# Altium integrated library Actel Axcelerator.IntLib: 162 symbols (part 9 of 43)
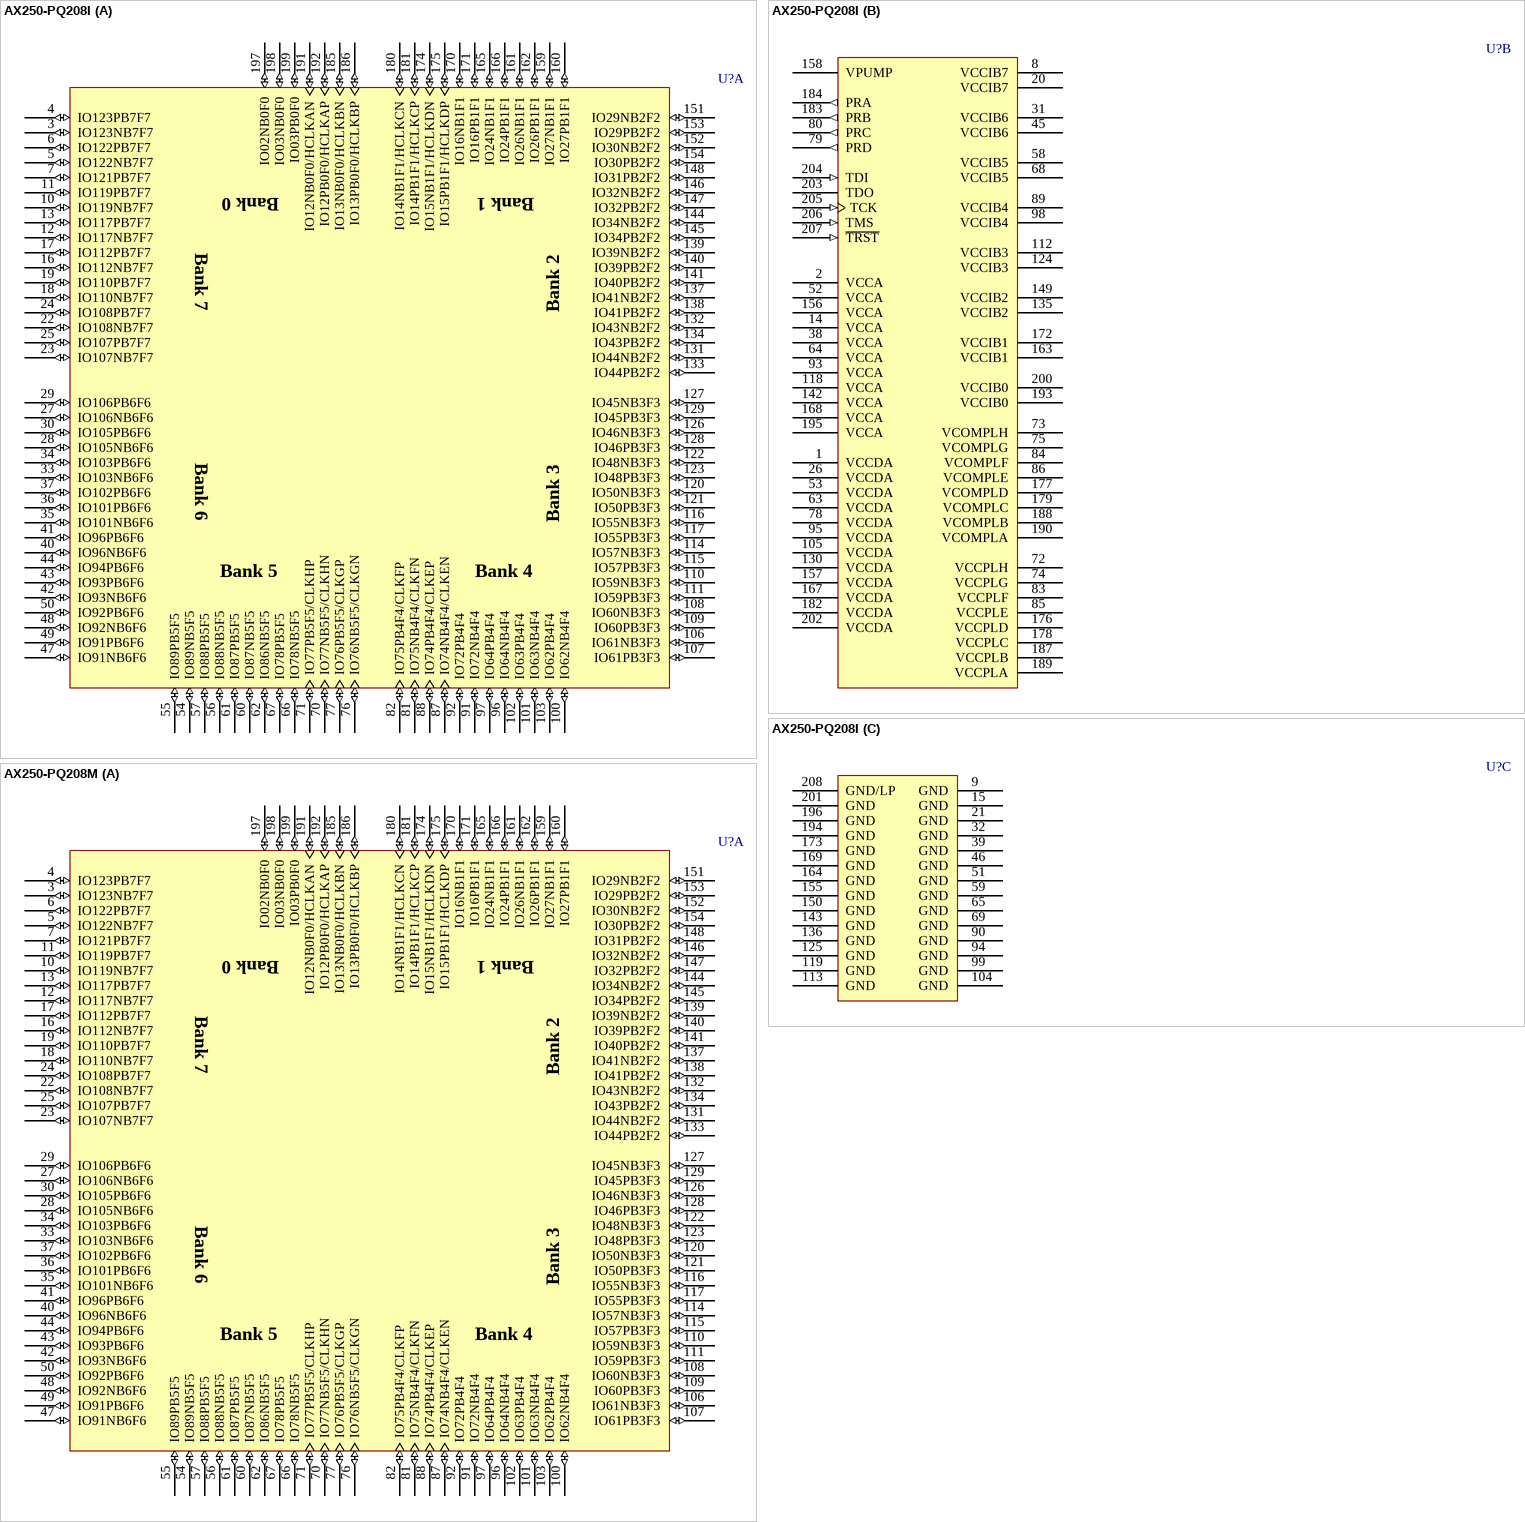
[diagram p407: symbols AX250-PQ208I to AX250-PQ208M]

## AX250-PQ208I
designator U?
Axcelerator AX250 FPGA, 115 User I/Os, 208-Pin PQFP, Speed Grade 1, Industrial Grade; Published: 21-May-2003; LatestRevisionDate: 11-Dec-2009; LatestRevisionNote: Updated to datasheet version 2.8 Oct-2009.; DatasheetVersion: v2.8, Oct-2009; PackageVersion: ver11.2, Nov-2009; PackageReference: PQ208; Publisher: Altium Limited; PackageDescription: 208-Pin Plastic Quad Flat Pack (PQ208); Code_JEDEC: MS-029-FA-1; ComponentLink1Description: Axcelerator Datasheet; ComponentLink1URL: http://www.actel.com/documents/AX_DS.pdf; ComponentLink2Description: Package Mechanical Drawings; ComponentLink2URL: http://www.actel.com/documents/PckgMechDrwngs.pdf; ComponentLink3Description: Axcelerator Documents; ComponentLink3URL: http://www.actel.com/products/axcelerator/docs.aspx; ComponentLink4Description: Actel.com Home; ComponentLink4URL: http://www.actel.com/
footprint PQ208_N (Shrink QFP, 208-Leads, Body 28x28mm, Pitch 0.5mm, IPC Medium Density)
footprint PQ208_L (Shrink QFP, 208-Leads, Body 28x28mm, Pitch 0.5mm, IPC High Density)
footprint PQ208_M (Shrink QFP, 208-Leads, Body 28x28mm, Pitch 0.5mm, IPC Low Density)
part A pins: 3 IO123NB7F7 (io), 4 IO123PB7F7 (io), 5 IO122NB7F7 (io), 6 IO122PB7F7 (io), 7 IO121PB7F7 (io), 10 IO119NB7F7 (io), 11 IO119PB7F7 (io), 12 IO117NB7F7 (io), 13 IO117PB7F7 (io), 16 IO112NB7F7 (io), 17 IO112PB7F7 (io), 18 IO110NB7F7 (io), 19 IO110PB7F7 (io), 22 IO108NB7F7 (io), 23 IO107NB7F7 (io), 24 IO108PB7F7 (io), 25 IO107PB7F7 (io), 27 IO106NB6F6 (io), 28 IO105NB6F6 (io), 29 IO106PB6F6 (io), 30 IO105PB6F6 (io), 33 IO103NB6F6 (io), 34 IO103PB6F6 (io), 35 IO101NB6F6 (io), 36 IO101PB6F6 (io), 37 IO102PB6F6 (io), 40 IO96NB6F6 (io), 41 IO96PB6F6 (io), 42 IO93NB6F6 (io), 43 IO93PB6F6 (io), 44 IO94PB6F6 (io), 47 IO91NB6F6 (io), 48 IO92NB6F6 (io), 49 IO91PB6F6 (io), 50 IO92PB6F6 (io), 54 IO89NB5F5 (io), 55 IO89PB5F5 (io), 56 IO88NB5F5 (io), 57 IO88PB5F5 (io), 60 IO87NB5F5 (io), 61 IO87PB5F5 (io), 62 IO86NB5F5 (io), 66 IO78NB5F5 (io), 67 IO78PB5F5 (io), 70 IO77NB5F5/CLKHN (io), 71 IO77PB5F5/CLKHP (io), 76 IO76NB5F5/CLKGN (io), 77 IO76PB5F5/CLKGP (io), 81 IO75NB4F4/CLKFN (io), 82 IO75PB4F4/CLKFP (io), 87 IO74NB4F4/CLKEN (io), 88 IO74PB4F4/CLKEP (io), 91 IO72NB4F4 (io), 92 IO72PB4F4 (io), 96 IO64NB4F4 (io), 97 IO64PB4F4 (io), 100 IO62NB4F4 (io), 101 IO63NB4F4 (io), 102 IO63PB4F4 (io), 103 IO62PB4F4 (io), 106 IO61NB3F3 (io), 107 IO61PB3F3 (io), 108 IO60NB3F3 (io), 109 IO60PB3F3 (io), 110 IO59NB3F3 (io), 111 IO59PB3F3 (io), 114 IO57NB3F3 (io), 115 IO57PB3F3 (io), 116 IO55NB3F3 (io), 117 IO55PB3F3 (io), 120 IO50NB3F3 (io), 121 IO50PB3F3 (io), 122 IO48NB3F3 (io), 123 IO48PB3F3 (io), 126 IO46NB3F3 (io), 127 IO45NB3F3 (io), 128 IO46PB3F3 (io), 129 IO45PB3F3 (io), 131 IO44NB2F2 (io), 132 IO43NB2F2 (io), 133 IO44PB2F2 (io), 134 IO43PB2F2 (io), 137 IO41NB2F2 (io), 138 IO41PB2F2 (io), 139 IO39NB2F2 (io), 140 IO39PB2F2 (io), 141 IO40PB2F2 (io), 144 IO34NB2F2 (io), 145 IO34PB2F2 (io), 146 IO32NB2F2 (io), 147 IO32PB2F2 (io), 148 IO31PB2F2 (io), 151 IO29NB2F2 (io), 152 IO30NB2F2 (io), 153 IO29PB2F2 (io), 154 IO30PB2F2 (io), 159 IO27NB1F1 (io), 160 IO27PB1F1 (io), 161 IO26NB1F1 (io), 162 IO26PB1F1 (io), 165 IO24NB1F1 (io), 166 IO24PB1F1 (io), 170 IO16NB1F1 (io), 171 IO16PB1F1 (io), 174 IO15NB1F1/HCLKDN (io), 175 IO15PB1F1/HCLKDP (io), 180 IO14NB1F1/HCLKCN (io), 181 IO14PB1F1/HCLKCP (io), 185 IO13NB0F0/HCLKBN (io), 186 IO13PB0F0/HCLKBP (io), 191 IO12NB0F0/HCLKAN (io), 192 IO12PB0F0/HCLKAP (io), 197 IO02NB0F0 (io), 198 IO03NB0F0 (io), 199 IO03PB0F0 (io)
part B pins: 1 VCCDA (power), 2 VCCA (power), 8 VCCIB7 (power), 14 VCCA (power), 20 VCCIB7 (power), 26 VCCDA (power), 31 VCCIB6 (power), 38 VCCA (power), 45 VCCIB6 (power), 52 VCCA (power), 53 VCCDA (power), 58 VCCIB5 (power), 63 VCCDA (power), 64 VCCA (power), 68 VCCIB5 (power), 72 VCCPLH (power), 73 VCOMPLH (power), 74 VCCPLG (power), 75 VCOMPLG (power), 78 VCCDA (power), 79 PRD (out), 80 PRC (out), 83 VCCPLF (power), 84 VCOMPLF (power), 85 VCCPLE (power), 86 VCOMPLE (power), 89 VCCIB4 (power), 93 VCCA (power), 95 VCCDA (power), 98 VCCIB4 (power), 105 VCCDA (power), 112 VCCIB3 (power), 118 VCCA (power), 124 VCCIB3 (power), 130 VCCDA (power), 135 VCCIB2 (power), 142 VCCA (power), 149 VCCIB2 (power), 156 VCCA (power), 157 VCCDA (power), 158 VPUMP (power), 163 VCCIB1 (power), 167 VCCDA (power), 168 VCCA (power), 172 VCCIB1 (power), 176 VCCPLD (power), 177 VCOMPLD (power), 178 VCCPLC (power), 179 VCOMPLC (power), 182 VCCDA (power), 183 PRB (out), 184 PRA (out), 187 VCCPLB (power), 188 VCOMPLB (power), 189 VCCPLA (power), 190 VCOMPLA (power), 193 VCCIB0 (power), 195 VCCA (power), 200 VCCIB0 (power), 202 VCCDA (power), 203 TDO (hiz), 204 TDI (in), 205 TCK (in), 206 TMS (in), 207 ~{TRST} (in)
part C pins: 9 GND (power), 15 GND (power), 21 GND (power), 32 GND (power), 39 GND (power), 46 GND (power), 51 GND (power), 59 GND (power), 65 GND (power), 69 GND (power), 90 GND (power), 94 GND (power), 99 GND (power), 104 GND (power), 113 GND (power), 119 GND (power), 125 GND (power), 136 GND (power), 143 GND (power), 150 GND (power), 155 GND (power), 164 GND (power), 169 GND (power), 173 GND (power), 194 GND (power), 196 GND (power), 201 GND (power), 208 GND/LP (power)
part A text: Bank 0; Bank 1; Bank 7; Bank 2; Bank 6; Bank 3; Bank 5; Bank 4

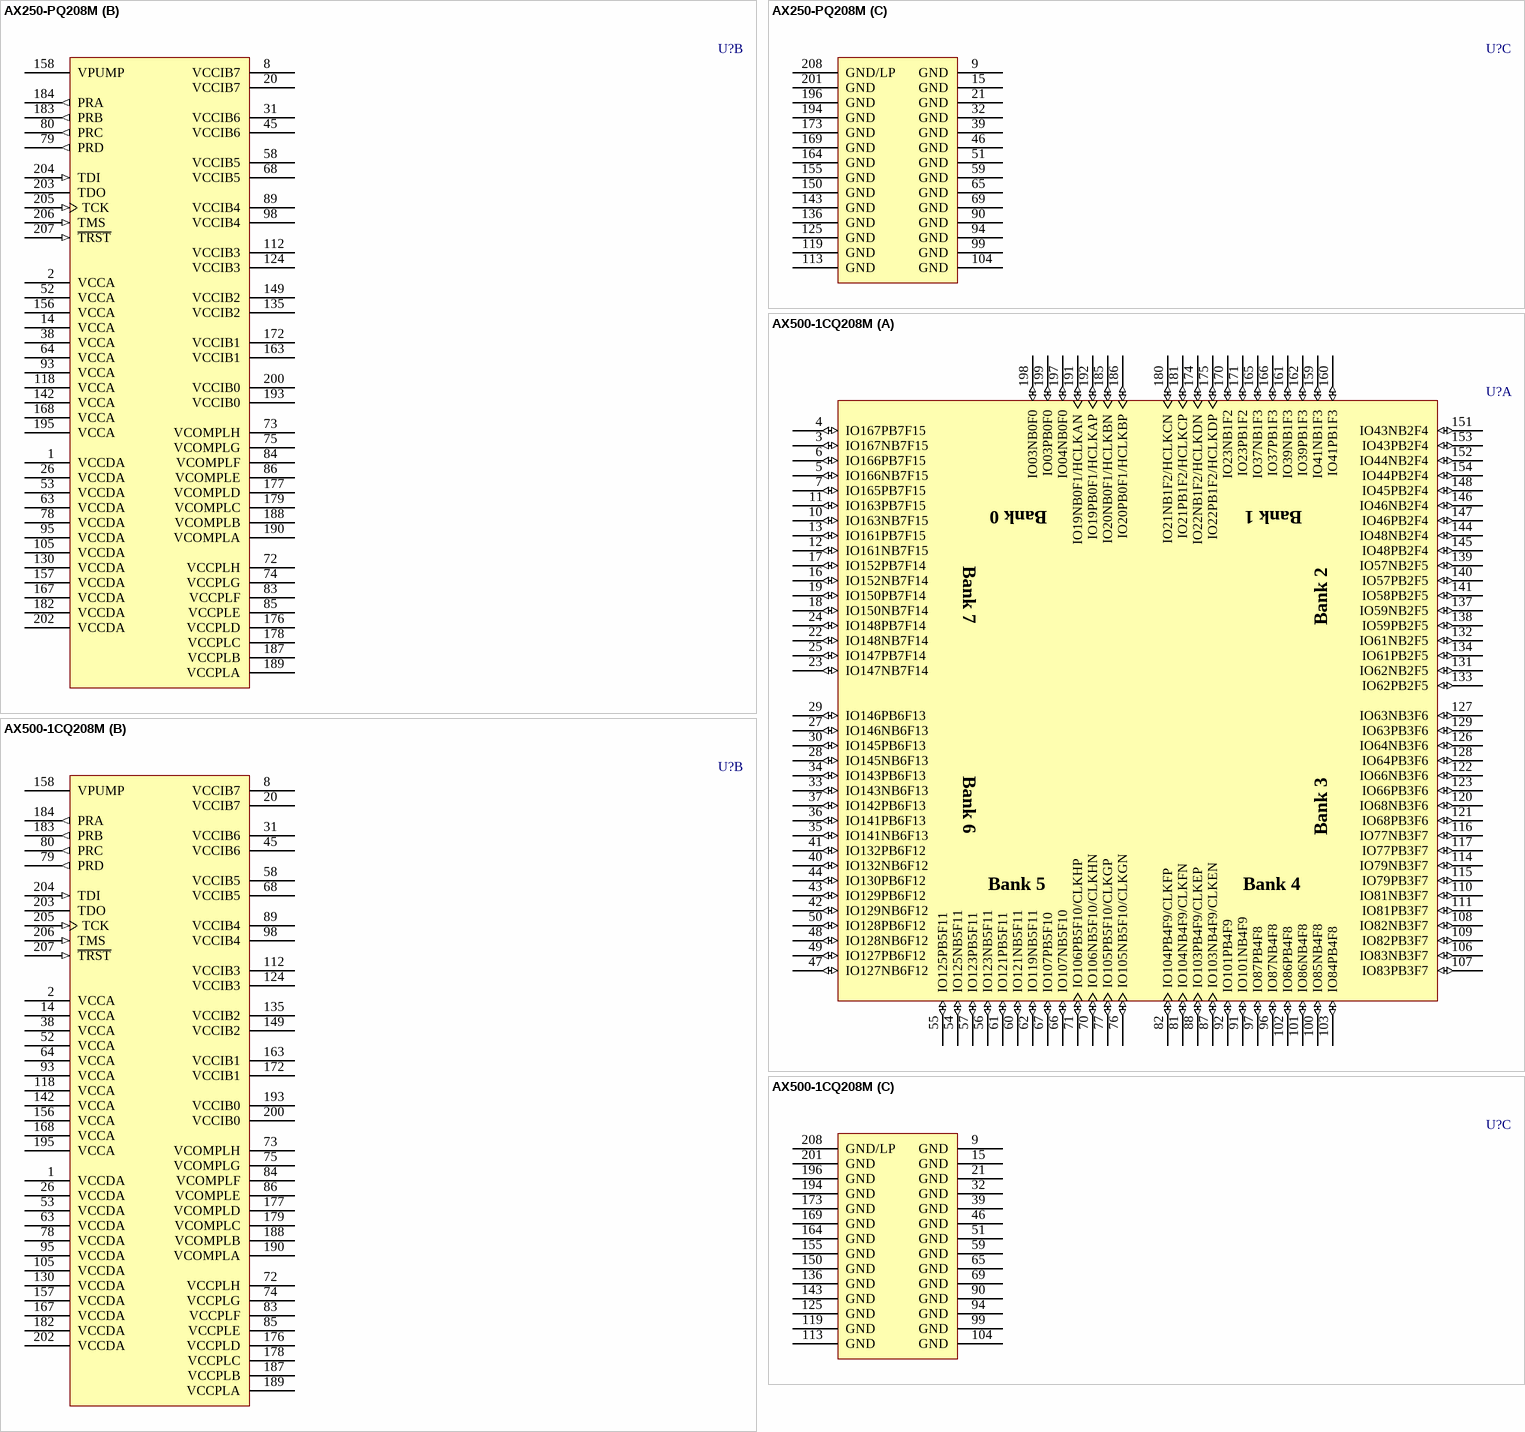
[diagram p100: symbols AX250-PQ208M to AX500-1CQ208M]

## AX250-PQ208M
designator U?
Axcelerator AX250 FPGA, 115 User I/Os, 208-Pin PQFP, Standard Speed Grade, Military Grade; Published: 11-Dec-2009; DatasheetVersion: v2.8, Oct-2009; PackageVersion: ver11.2, Nov-2009; PackageReference: PQ208; Publisher: Altium Limited; PackageDescription: 208-Pin Plastic Quad Flat Pack (PQ208); Code_JEDEC: MS-029-FA-1; ComponentLink1Description: Axcelerator Datasheet; ComponentLink1URL: http://www.actel.com/documents/AX_DS.pdf; ComponentLink2Description: Package Mechanical Drawings; ComponentLink2URL: http://www.actel.com/documents/PckgMechDrwngs.pdf; ComponentLink3Description: Axcelerator Documents; ComponentLink3URL: http://www.actel.com/products/axcelerator/docs.aspx; ComponentLink4Description: Actel.com Home; ComponentLink4URL: http://www.actel.com/
footprint PQ208_N (Shrink QFP, 208-Leads, Body 28x28mm, Pitch 0.5mm, IPC Medium Density)
footprint PQ208_L (Shrink QFP, 208-Leads, Body 28x28mm, Pitch 0.5mm, IPC High Density)
footprint PQ208_M (Shrink QFP, 208-Leads, Body 28x28mm, Pitch 0.5mm, IPC Low Density)
part A pins: 3 IO123NB7F7 (io), 4 IO123PB7F7 (io), 5 IO122NB7F7 (io), 6 IO122PB7F7 (io), 7 IO121PB7F7 (io), 10 IO119NB7F7 (io), 11 IO119PB7F7 (io), 12 IO117NB7F7 (io), 13 IO117PB7F7 (io), 16 IO112NB7F7 (io), 17 IO112PB7F7 (io), 18 IO110NB7F7 (io), 19 IO110PB7F7 (io), 22 IO108NB7F7 (io), 23 IO107NB7F7 (io), 24 IO108PB7F7 (io), 25 IO107PB7F7 (io), 27 IO106NB6F6 (io), 28 IO105NB6F6 (io), 29 IO106PB6F6 (io), 30 IO105PB6F6 (io), 33 IO103NB6F6 (io), 34 IO103PB6F6 (io), 35 IO101NB6F6 (io), 36 IO101PB6F6 (io), 37 IO102PB6F6 (io), 40 IO96NB6F6 (io), 41 IO96PB6F6 (io), 42 IO93NB6F6 (io), 43 IO93PB6F6 (io), 44 IO94PB6F6 (io), 47 IO91NB6F6 (io), 48 IO92NB6F6 (io), 49 IO91PB6F6 (io), 50 IO92PB6F6 (io), 54 IO89NB5F5 (io), 55 IO89PB5F5 (io), 56 IO88NB5F5 (io), 57 IO88PB5F5 (io), 60 IO87NB5F5 (io), 61 IO87PB5F5 (io), 62 IO86NB5F5 (io), 66 IO78NB5F5 (io), 67 IO78PB5F5 (io), 70 IO77NB5F5/CLKHN (io), 71 IO77PB5F5/CLKHP (io), 76 IO76NB5F5/CLKGN (io), 77 IO76PB5F5/CLKGP (io), 81 IO75NB4F4/CLKFN (io), 82 IO75PB4F4/CLKFP (io), 87 IO74NB4F4/CLKEN (io), 88 IO74PB4F4/CLKEP (io), 91 IO72NB4F4 (io), 92 IO72PB4F4 (io), 96 IO64NB4F4 (io), 97 IO64PB4F4 (io), 100 IO62NB4F4 (io), 101 IO63NB4F4 (io), 102 IO63PB4F4 (io), 103 IO62PB4F4 (io), 106 IO61NB3F3 (io), 107 IO61PB3F3 (io), 108 IO60NB3F3 (io), 109 IO60PB3F3 (io), 110 IO59NB3F3 (io), 111 IO59PB3F3 (io), 114 IO57NB3F3 (io), 115 IO57PB3F3 (io), 116 IO55NB3F3 (io), 117 IO55PB3F3 (io), 120 IO50NB3F3 (io), 121 IO50PB3F3 (io), 122 IO48NB3F3 (io), 123 IO48PB3F3 (io), 126 IO46NB3F3 (io), 127 IO45NB3F3 (io), 128 IO46PB3F3 (io), 129 IO45PB3F3 (io), 131 IO44NB2F2 (io), 132 IO43NB2F2 (io), 133 IO44PB2F2 (io), 134 IO43PB2F2 (io), 137 IO41NB2F2 (io), 138 IO41PB2F2 (io), 139 IO39NB2F2 (io), 140 IO39PB2F2 (io), 141 IO40PB2F2 (io), 144 IO34NB2F2 (io), 145 IO34PB2F2 (io), 146 IO32NB2F2 (io), 147 IO32PB2F2 (io), 148 IO31PB2F2 (io), 151 IO29NB2F2 (io), 152 IO30NB2F2 (io), 153 IO29PB2F2 (io), 154 IO30PB2F2 (io), 159 IO27NB1F1 (io), 160 IO27PB1F1 (io), 161 IO26NB1F1 (io), 162 IO26PB1F1 (io), 165 IO24NB1F1 (io), 166 IO24PB1F1 (io), 170 IO16NB1F1 (io), 171 IO16PB1F1 (io), 174 IO15NB1F1/HCLKDN (io), 175 IO15PB1F1/HCLKDP (io), 180 IO14NB1F1/HCLKCN (io), 181 IO14PB1F1/HCLKCP (io), 185 IO13NB0F0/HCLKBN (io), 186 IO13PB0F0/HCLKBP (io), 191 IO12NB0F0/HCLKAN (io), 192 IO12PB0F0/HCLKAP (io), 197 IO02NB0F0 (io), 198 IO03NB0F0 (io), 199 IO03PB0F0 (io)
part B pins: 1 VCCDA (power), 2 VCCA (power), 8 VCCIB7 (power), 14 VCCA (power), 20 VCCIB7 (power), 26 VCCDA (power), 31 VCCIB6 (power), 38 VCCA (power), 45 VCCIB6 (power), 52 VCCA (power), 53 VCCDA (power), 58 VCCIB5 (power), 63 VCCDA (power), 64 VCCA (power), 68 VCCIB5 (power), 72 VCCPLH (power), 73 VCOMPLH (power), 74 VCCPLG (power), 75 VCOMPLG (power), 78 VCCDA (power), 79 PRD (out), 80 PRC (out), 83 VCCPLF (power), 84 VCOMPLF (power), 85 VCCPLE (power), 86 VCOMPLE (power), 89 VCCIB4 (power), 93 VCCA (power), 95 VCCDA (power), 98 VCCIB4 (power), 105 VCCDA (power), 112 VCCIB3 (power), 118 VCCA (power), 124 VCCIB3 (power), 130 VCCDA (power), 135 VCCIB2 (power), 142 VCCA (power), 149 VCCIB2 (power), 156 VCCA (power), 157 VCCDA (power), 158 VPUMP (power), 163 VCCIB1 (power), 167 VCCDA (power), 168 VCCA (power), 172 VCCIB1 (power), 176 VCCPLD (power), 177 VCOMPLD (power), 178 VCCPLC (power), 179 VCOMPLC (power), 182 VCCDA (power), 183 PRB (out), 184 PRA (out), 187 VCCPLB (power), 188 VCOMPLB (power), 189 VCCPLA (power), 190 VCOMPLA (power), 193 VCCIB0 (power), 195 VCCA (power), 200 VCCIB0 (power), 202 VCCDA (power), 203 TDO (hiz), 204 TDI (in), 205 TCK (in), 206 TMS (in), 207 ~{TRST} (in)
part C pins: 9 GND (power), 15 GND (power), 21 GND (power), 32 GND (power), 39 GND (power), 46 GND (power), 51 GND (power), 59 GND (power), 65 GND (power), 69 GND (power), 90 GND (power), 94 GND (power), 99 GND (power), 104 GND (power), 113 GND (power), 119 GND (power), 125 GND (power), 136 GND (power), 143 GND (power), 150 GND (power), 155 GND (power), 164 GND (power), 169 GND (power), 173 GND (power), 194 GND (power), 196 GND (power), 201 GND (power), 208 GND/LP (power)
part A text: Bank 0; Bank 1; Bank 7; Bank 2; Bank 6; Bank 3; Bank 5; Bank 4

## AX500-1CQ208M
designator U?
Axcelerator AX500 FPGA, 115 User I/Os, 208-Pin CQFP, Speed Grade 1, Military Grade; Published: 11-Dec-2009; DatasheetVersion: v2.8, Oct-2009; PackageVersion: ver11.2, Nov-2009; PackageReference: CQ208; Publisher: Altium Limited; PackageDescription: 208-Pin Ceramic Quad Flat Pack (CQFP); ComponentLink1Description: Axcelerator Datasheet; ComponentLink1URL: http://www.actel.com/documents/AX_DS.pdf; ComponentLink2Description: Package Mechanical Drawings; ComponentLink2URL: http://www.actel.com/documents/PckgMechDrwngs.pdf; ComponentLink3Description: Axcelerator Documents; ComponentLink3URL: http://www.actel.com/products/axcelerator/docs.aspx; ComponentLink4Description: Actel.com Home; ComponentLink4URL: http://www.actel.com/
footprint CQ208_N (CQFP, 208-Leads, Body 29x29mm; Pitch 0.5mm, Gullwing Leadform, IPC Medium Density)
footprint CQ208_L (CQFP, 208-Leads, Body 29x29mm; Pitch 0.5mm, Gullwing Leadform, IPC High Density)
footprint CQ208_M (CQFP, 208-Leads, Body 29x29mm; Pitch 0.5mm, Gullwing Leadform, IPC Low Density)
part A pins: 3 IO167NB7F15 (io), 4 IO167PB7F15 (io), 5 IO166NB7F15 (io), 6 IO166PB7F15 (io), 7 IO165PB7F15 (io), 10 IO163NB7F15 (io), 11 IO163PB7F15 (io), 12 IO161NB7F15 (io), 13 IO161PB7F15 (io), 16 IO152NB7F14 (io), 17 IO152PB7F14 (io), 18 IO150NB7F14 (io), 19 IO150PB7F14 (io), 22 IO148NB7F14 (io), 23 IO147NB7F14 (io), 24 IO148PB7F14 (io), 25 IO147PB7F14 (io), 27 IO146NB6F13 (io), 28 IO145NB6F13 (io), 29 IO146PB6F13 (io), 30 IO145PB6F13 (io), 33 IO143NB6F13 (io), 34 IO143PB6F13 (io), 35 IO141NB6F13 (io), 36 IO141PB6F13 (io), 37 IO142PB6F13 (io), 40 IO132NB6F12 (io), 41 IO132PB6F12 (io), 42 IO129NB6F12 (io), 43 IO129PB6F12 (io), 44 IO130PB6F12 (io), 47 IO127NB6F12 (io), 48 IO128NB6F12 (io), 49 IO127PB6F12 (io), 50 IO128PB6F12 (io), 54 IO125NB5F11 (io), 55 IO125PB5F11 (io), 56 IO123NB5F11 (io), 57 IO123PB5F11 (io), 60 IO121NB5F11 (io), 61 IO121PB5F11 (io), 62 IO119NB5F11 (io), 66 IO107NB5F10 (io), 67 IO107PB5F10 (io), 70 IO106NB5F10/CLKHN (io), 71 IO106PB5F10/CLKHP (io), 76 IO105NB5F10/CLKGN (io), 77 IO105PB5F10/CLKGP (io), 81 IO104NB4F9/CLKFN (io), 82 IO104PB4F9/CLKFP (io), 87 IO103NB4F9/CLKEN (io), 88 IO103PB4F9/CLKEP (io), 91 IO101NB4F9 (io), 92 IO101PB4F9 (io), 96 IO87NB4F8 (io), 97 IO87PB4F8 (io), 100 IO85NB4F8 (io), 101 IO86NB4F8 (io), 102 IO86PB4F8 (io), 103 IO84PB4F8 (io), 106 IO83NB3F7 (io), 107 IO83PB3F7 (io), 108 IO82NB3F7 (io), 109 IO82PB3F7 (io), 110 IO81NB3F7 (io), 111 IO81PB3F7 (io), 114 IO79NB3F7 (io), 115 IO79PB3F7 (io), 116 IO77NB3F7 (io), 117 IO77PB3F7 (io), 120 IO68NB3F6 (io), 121 IO68PB3F6 (io), 122 IO66NB3F6 (io), 123 IO66PB3F6 (io), 126 IO64NB3F6 (io), 127 IO63NB3F6 (io), 128 IO64PB3F6 (io), 129 IO63PB3F6 (io), 131 IO62NB2F5 (io), 132 IO61NB2F5 (io), 133 IO62PB2F5 (io), 134 IO61PB2F5 (io), 137 IO59NB2F5 (io), 138 IO59PB2F5 (io), 139 IO57NB2F5 (io), 140 IO57PB2F5 (io), 141 IO58PB2F5 (io), 144 IO48NB2F4 (io), 145 IO48PB2F4 (io), 146 IO46NB2F4 (io), 147 IO46PB2F4 (io), 148 IO45PB2F4 (io), 151 IO43NB2F4 (io), 152 IO44NB2F4 (io), 153 IO43PB2F4 (io), 154 IO44PB2F4 (io), 159 IO41NB1F3 (io), 160 IO41PB1F3 (io), 161 IO39NB1F3 (io), 162 IO39PB1F3 (io), 165 IO37NB1F3 (io), 166 IO37PB1F3 (io), 170 IO23NB1F2 (io), 171 IO23PB1F2 (io), 174 IO22NB1F2/HCLKDN (io), 175 IO22PB1F2/HCLKDP (io), 180 IO21NB1F2/HCLKCN (io), 181 IO21PB1F2/HCLKCP (io), 185 IO20NB0F1/HCLKBN (io), 186 IO20PB0F1/HCLKBP (io), 191 IO19NB0F1/HCLKAN (io), 192 IO19PB0F1/HCLKAP (io), 197 IO04NB0F0 (io), 198 IO03NB0F0 (io), 199 IO03PB0F0 (io)
part B pins: 1 VCCDA (power), 2 VCCA (power), 8 VCCIB7 (power), 14 VCCA (power), 20 VCCIB7 (power), 26 VCCDA (power), 31 VCCIB6 (power), 38 VCCA (power), 45 VCCIB6 (power), 52 VCCA (power), 53 VCCDA (power), 58 VCCIB5 (power), 63 VCCDA (power), 64 VCCA (power), 68 VCCIB5 (power), 72 VCCPLH (power), 73 VCOMPLH (power), 74 VCCPLG (power), 75 VCOMPLG (power), 78 VCCDA (power), 79 PRD (out), 80 PRC (out), 83 VCCPLF (power), 84 VCOMPLF (power), 85 VCCPLE (power), 86 VCOMPLE (power), 89 VCCIB4 (power), 93 VCCA (power), 95 VCCDA (power), 98 VCCIB4 (power), 105 VCCDA (power), 112 VCCIB3 (power), 118 VCCA (power), 124 VCCIB3 (power), 130 VCCDA (power), 135 VCCIB2 (power), 142 VCCA (power), 149 VCCIB2 (power), 156 VCCA (power), 157 VCCDA (power), 158 VPUMP (power), 163 VCCIB1 (power), 167 VCCDA (power), 168 VCCA (power), 172 VCCIB1 (power), 176 VCCPLD (power), 177 VCOMPLD (power), 178 VCCPLC (power), 179 VCOMPLC (power), 182 VCCDA (power), 183 PRB (out), 184 PRA (out), 187 VCCPLB (power), 188 VCOMPLB (power), 189 VCCPLA (power), 190 VCOMPLA (power), 193 VCCIB0 (power), 195 VCCA (power), 200 VCCIB0 (power), 202 VCCDA (power), 203 TDO (hiz), 204 TDI (in), 205 TCK (in), 206 TMS (in), 207 ~{TRST} (in)
part C pins: 9 GND (power), 15 GND (power), 21 GND (power), 32 GND (power), 39 GND (power), 46 GND (power), 51 GND (power), 59 GND (power), 65 GND (power), 69 GND (power), 90 GND (power), 94 GND (power), 99 GND (power), 104 GND (power), 113 GND (power), 119 GND (power), 125 GND (power), 136 GND (power), 143 GND (power), 150 GND (power), 155 GND (power), 164 GND (power), 169 GND (power), 173 GND (power), 194 GND (power), 196 GND (power), 201 GND (power), 208 GND/LP (power)
part A text: Bank 0; Bank 1; Bank 7; Bank 2; Bank 6; Bank 3; Bank 5; Bank 4

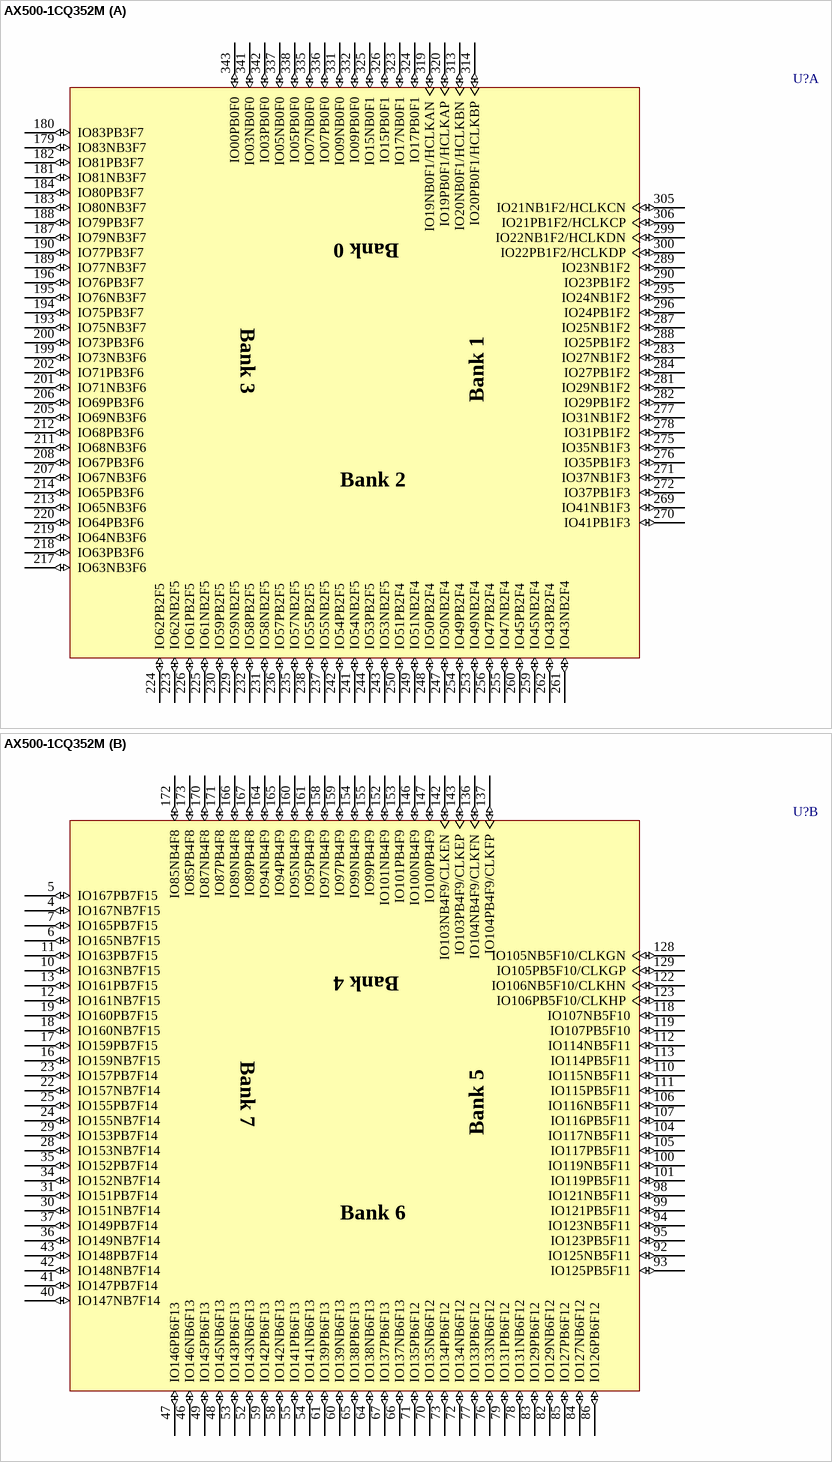
[diagram p101: symbol AX500-1CQ352M]

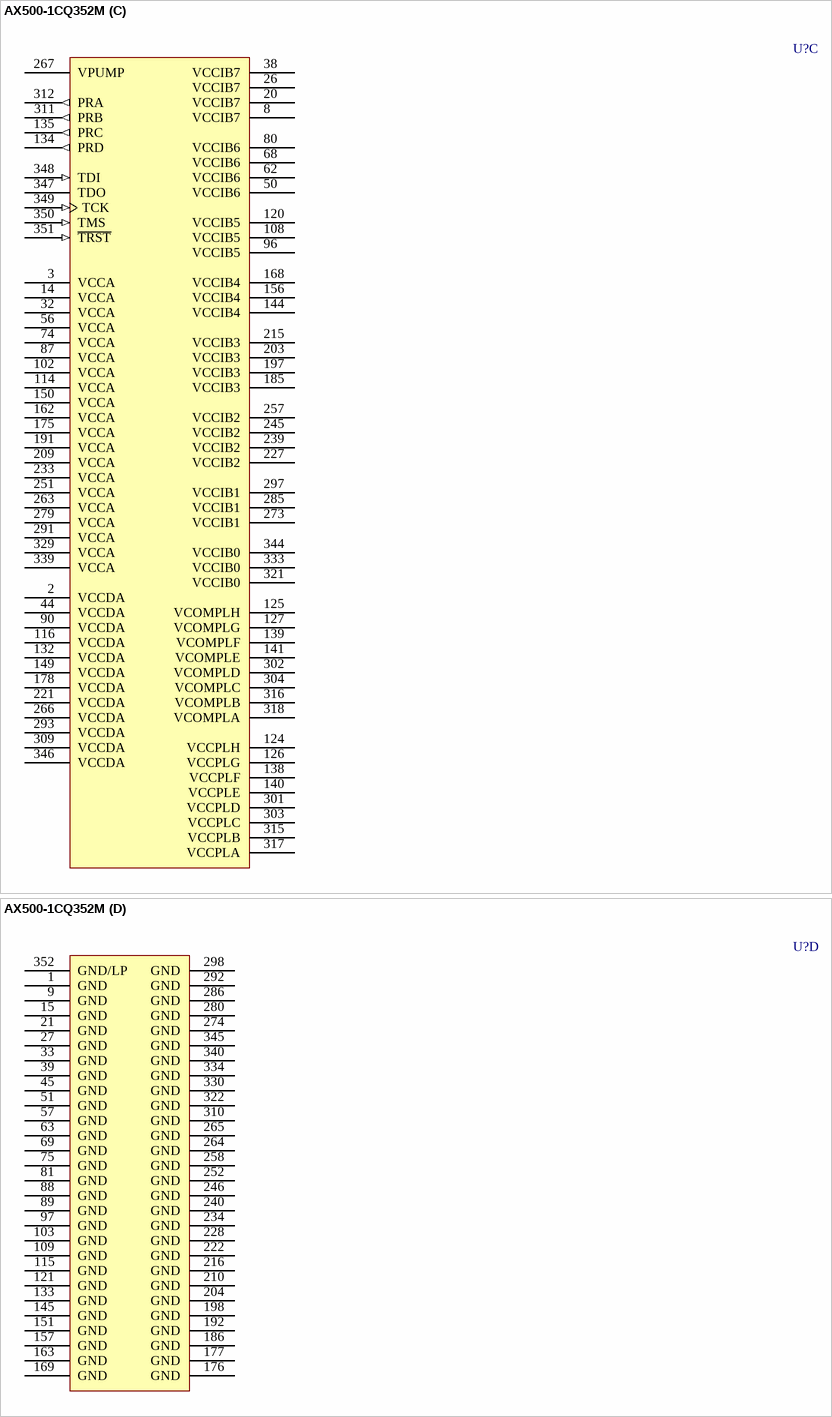
[diagram p102: symbol AX500-1CQ352M]

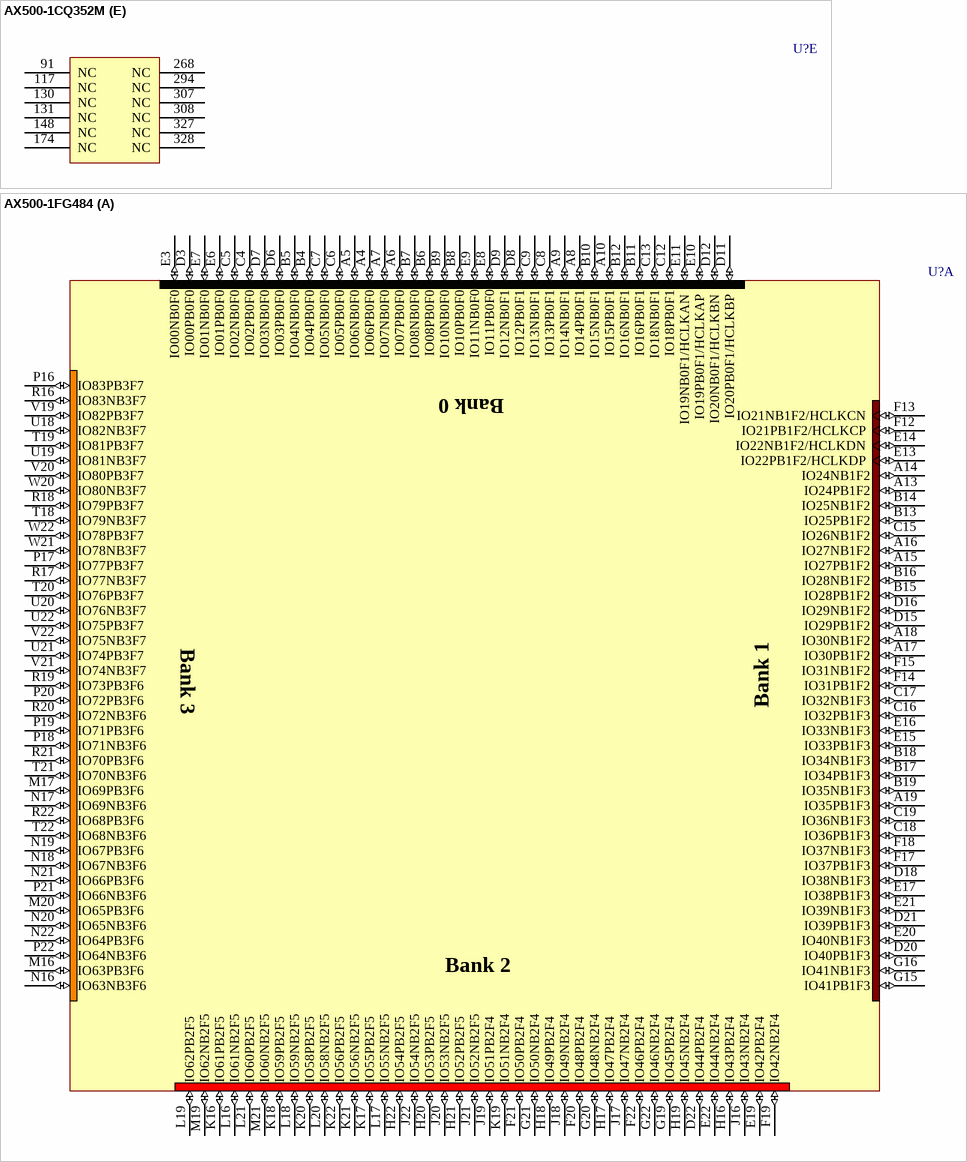
[diagram p103: symbols AX500-1CQ352M to AX500-1FG484]

## AX500-1CQ352M
designator U?
Axcelerator AX500 FPGA, 198 User I/Os, 352-Pin CQFP, Speed Grade 1, Military Grade; Published: 11-Dec-2009; DatasheetVersion: v2.8, Oct-2009; PackageVersion: ver11.2, Nov-2009; PackageReference: CQ352; Publisher: Altium Limited; PackageDescription: 352-Pin Ceramic Quad Flat Pack (CQFP), Cavity Up without Heat Sink; Code_JEDEC: MO-134-AE; ComponentLink1Description: Axcelerator Datasheet; ComponentLink1URL: http://www.actel.com/documents/AX_DS.pdf; ComponentLink2Description: Package Mechanical Drawings; ComponentLink2URL: http://www.actel.com/documents/PckgMechDrwngs.pdf; ComponentLink3Description: Axcelerator Documents; ComponentLink3URL: http://www.actel.com/products/axcelerator/docs.aspx; ComponentLink4Description: Actel.com Home; ComponentLink4URL: http://www.actel.com/
footprint CQ352_N (CQFP, 352-Leads, Body 48x48mm; Pitch 0.5mm, Gullwing Leadform, IPC Medium Density)
footprint CQ352_L (CQFP, 352-Leads, Body 48x48mm; Pitch 0.5mm, Gullwing Leadform, IPC High Density)
footprint CQ352_M (CQFP, 352-Leads, Body 48x48mm; Pitch 0.5mm, Gullwing Leadform, IPC Low Density)
part A pins: 179 IO83NB3F7 (io), 180 IO83PB3F7 (io), 181 IO81NB3F7 (io), 182 IO81PB3F7 (io), 183 IO80NB3F7 (io), 184 IO80PB3F7 (io), 187 IO79NB3F7 (io), 188 IO79PB3F7 (io), 189 IO77NB3F7 (io), 190 IO77PB3F7 (io), 193 IO75NB3F7 (io), 194 IO75PB3F7 (io), 195 IO76NB3F7 (io), 196 IO76PB3F7 (io), 199 IO73NB3F6 (io), 200 IO73PB3F6 (io), 201 IO71NB3F6 (io), 202 IO71PB3F6 (io), 205 IO69NB3F6 (io), 206 IO69PB3F6 (io), 207 IO67NB3F6 (io), 208 IO67PB3F6 (io), 211 IO68NB3F6 (io), 212 IO68PB3F6 (io), 213 IO65NB3F6 (io), 214 IO65PB3F6 (io), 217 IO63NB3F6 (io), 218 IO63PB3F6 (io), 219 IO64NB3F6 (io), 220 IO64PB3F6 (io), 223 IO62NB2F5 (io), 224 IO62PB2F5 (io), 225 IO61NB2F5 (io), 226 IO61PB2F5 (io), 229 IO59NB2F5 (io), 230 IO59PB2F5 (io), 231 IO58NB2F5 (io), 232 IO58PB2F5 (io), 235 IO57NB2F5 (io), 236 IO57PB2F5 (io), 237 IO55NB2F5 (io), 238 IO55PB2F5 (io), 241 IO54NB2F5 (io), 242 IO54PB2F5 (io), 243 IO53NB2F5 (io), 244 IO53PB2F5 (io), 247 IO50NB2F4 (io), 248 IO50PB2F4 (io), 249 IO51NB2F4 (io), 250 IO51PB2F4 (io), 253 IO49NB2F4 (io), 254 IO49PB2F4 (io), 255 IO47NB2F4 (io), 256 IO47PB2F4 (io), 259 IO45NB2F4 (io), 260 IO45PB2F4 (io), 261 IO43NB2F4 (io), 262 IO43PB2F4 (io), 269 IO41NB1F3 (io), 270 IO41PB1F3 (io), 271 IO37NB1F3 (io), 272 IO37PB1F3 (io), 275 IO35NB1F3 (io), 276 IO35PB1F3 (io), 277 IO31NB1F2 (io), 278 IO31PB1F2 (io), 281 IO29NB1F2 (io), 282 IO29PB1F2 (io), 283 IO27NB1F2 (io), 284 IO27PB1F2 (io), 287 IO25NB1F2 (io), 288 IO25PB1F2 (io), 289 IO23NB1F2 (io), 290 IO23PB1F2 (io), 295 IO24NB1F2 (io), 296 IO24PB1F2 (io), 299 IO22NB1F2/HCLKDN (io), 300 IO22PB1F2/HCLKDP (io), 305 IO21NB1F2/HCLKCN (io), 306 IO21PB1F2/HCLKCP (io), 313 IO20NB0F1/HCLKBN (io), 314 IO20PB0F1/HCLKBP (io), 319 IO19NB0F1/HCLKAN (io), 320 IO19PB0F1/HCLKAP (io), 323 IO17NB0F1 (io), 324 IO17PB0F1 (io), 325 IO15NB0F1 (io), 326 IO15PB0F1 (io), 331 IO09NB0F0 (io), 332 IO09PB0F0 (io), 335 IO07NB0F0 (io), 336 IO07PB0F0 (io), 337 IO05NB0F0 (io), 338 IO05PB0F0 (io), 341 IO03NB0F0 (io), 342 IO03PB0F0 (io), 343 IO00PB0F0 (io)
part B pins: 4 IO167NB7F15 (io), 5 IO167PB7F15 (io), 6 IO165NB7F15 (io), 7 IO165PB7F15 (io), 10 IO163NB7F15 (io), 11 IO163PB7F15 (io), 12 IO161NB7F15 (io), 13 IO161PB7F15 (io), 16 IO159NB7F15 (io), 17 IO159PB7F15 (io), 18 IO160NB7F15 (io), 19 IO160PB7F15 (io), 22 IO157NB7F14 (io), 23 IO157PB7F14 (io), 24 IO155NB7F14 (io), 25 IO155PB7F14 (io), 28 IO153NB7F14 (io), 29 IO153PB7F14 (io), 30 IO151NB7F14 (io), 31 IO151PB7F14 (io), 34 IO152NB7F14 (io), 35 IO152PB7F14 (io), 36 IO149NB7F14 (io), 37 IO149PB7F14 (io), 40 IO147NB7F14 (io), 41 IO147PB7F14 (io), 42 IO148NB7F14 (io), 43 IO148PB7F14 (io), 46 IO146NB6F13 (io), 47 IO146PB6F13 (io), 48 IO145NB6F13 (io), 49 IO145PB6F13 (io), 52 IO143NB6F13 (io), 53 IO143PB6F13 (io), 54 IO141NB6F13 (io), 55 IO141PB6F13 (io), 58 IO142NB6F13 (io), 59 IO142PB6F13 (io), 60 IO139NB6F13 (io), 61 IO139PB6F13 (io), 64 IO138NB6F13 (io), 65 IO138PB6F13 (io), 66 IO137NB6F13 (io), 67 IO137PB6F13 (io), 70 IO135NB6F12 (io), 71 IO135PB6F12 (io), 72 IO134NB6F12 (io), 73 IO134PB6F12 (io), 76 IO133NB6F12 (io), 77 IO133PB6F12 (io), 78 IO131NB6F12 (io), 79 IO131PB6F12 (io), 82 IO129NB6F12 (io), 83 IO129PB6F12 (io), 84 IO127NB6F12 (io), 85 IO127PB6F12 (io), 86 IO126PB6F12 (io), 92 IO125NB5F11 (io), 93 IO125PB5F11 (io), 94 IO123NB5F11 (io), 95 IO123PB5F11 (io), 98 IO121NB5F11 (io), 99 IO121PB5F11 (io), 100 IO119NB5F11 (io), 101 IO119PB5F11 (io), 104 IO117NB5F11 (io), 105 IO117PB5F11 (io), 106 IO116NB5F11 (io), 107 IO116PB5F11 (io), 110 IO115NB5F11 (io), 111 IO115PB5F11 (io), 112 IO114NB5F11 (io), 113 IO114PB5F11 (io), 118 IO107NB5F10 (io), 119 IO107PB5F10 (io), 122 IO106NB5F10/CLKHN (io), 123 IO106PB5F10/CLKHP (io), 128 IO105NB5F10/CLKGN (io), 129 IO105PB5F10/CLKGP (io), 136 IO104NB4F9/CLKFN (io), 137 IO104PB4F9/CLKFP (io), 142 IO103NB4F9/CLKEN (io), 143 IO103PB4F9/CLKEP (io), 146 IO100NB4F9 (io), 147 IO100PB4F9 (io), 152 IO101NB4F9 (io), 153 IO101PB4F9 (io), 154 IO99NB4F9 (io), 155 IO99PB4F9 (io), 158 IO97NB4F9 (io), 159 IO97PB4F9 (io), 160 IO95NB4F9 (io), 161 IO95PB4F9 (io), 164 IO94NB4F9 (io), 165 IO94PB4F9 (io), 166 IO89NB4F8 (io), 167 IO89PB4F8 (io), 170 IO87NB4F8 (io), 171 IO87PB4F8 (io), 172 IO85NB4F8 (io), 173 IO85PB4F8 (io)
part C pins: 2 VCCDA (power), 3 VCCA (power), 8 VCCIB7 (power), 14 VCCA (power), 20 VCCIB7 (power), 26 VCCIB7 (power), 32 VCCA (power), 38 VCCIB7 (power), 44 VCCDA (power), 50 VCCIB6 (power), 56 VCCA (power), 62 VCCIB6 (power), 68 VCCIB6 (power), 74 VCCA (power), 80 VCCIB6 (power), 87 VCCA (power), 90 VCCDA (power), 96 VCCIB5 (power), 102 VCCA (power), 108 VCCIB5 (power), 114 VCCA (power), 116 VCCDA (power), 120 VCCIB5 (power), 124 VCCPLH (power), 125 VCOMPLH (power), 126 VCCPLG (power), 127 VCOMPLG (power), 132 VCCDA (power), 134 PRD (out), 135 PRC (out), 138 VCCPLF (power), 139 VCOMPLF (power), 140 VCCPLE (power), 141 VCOMPLE (power), 144 VCCIB4 (power), 149 VCCDA (power), 150 VCCA (power), 156 VCCIB4 (power), 162 VCCA (power), 168 VCCIB4 (power), 175 VCCA (power), 178 VCCDA (power), 185 VCCIB3 (power), 191 VCCA (power), 197 VCCIB3 (power), 203 VCCIB3 (power), 209 VCCA (power), 215 VCCIB3 (power), 221 VCCDA (power), 227 VCCIB2 (power), 233 VCCA (power), 239 VCCIB2 (power), 245 VCCIB2 (power), 251 VCCA (power), 257 VCCIB2 (power), 263 VCCA (power), 266 VCCDA (power), 267 VPUMP (power), 273 VCCIB1 (power), 279 VCCA (power), 285 VCCIB1 (power), 291 VCCA (power), 293 VCCDA (power), 297 VCCIB1 (power), 301 VCCPLD (power), 302 VCOMPLD (power), 303 VCCPLC (power), 304 VCOMPLC (power), 309 VCCDA (power), 311 PRB (out), 312 PRA (out), 315 VCCPLB (power), 316 VCOMPLB (power), 317 VCCPLA (power), 318 VCOMPLA (power), 321 VCCIB0 (power), 329 VCCA (power), 333 VCCIB0 (power), 339 VCCA (power), 344 VCCIB0 (power), 346 VCCDA (power), 347 TDO (hiz), 348 TDI (in), 349 TCK (in), 350 TMS (in), 351 ~{TRST} (in)
part D pins: 1 GND (power), 9 GND (power), 15 GND (power), 21 GND (power), 27 GND (power), 33 GND (power), 39 GND (power), 45 GND (power), 51 GND (power), 57 GND (power), 63 GND (power), 69 GND (power), 75 GND (power), 81 GND (power), 88 GND (power), 89 GND (power), 97 GND (power), 103 GND (power), 109 GND (power), 115 GND (power), 121 GND (power), 133 GND (power), 145 GND (power), 151 GND (power), 157 GND (power), 163 GND (power), 169 GND (power), 176 GND (power), 177 GND (power), 186 GND (power), 192 GND (power), 198 GND (power), 204 GND (power), 210 GND (power), 216 GND (power), 222 GND (power), 228 GND (power), 234 GND (power), 240 GND (power), 246 GND (power), 252 GND (power), 258 GND (power), 264 GND (power), 265 GND (power), 274 GND (power), 280 GND (power), 286 GND (power), 292 GND (power), 298 GND (power), 310 GND (power), 322 GND (power), 330 GND (power), 334 GND (power), 340 GND (power), 345 GND (power), 352 GND/LP (power)
part E pins: 91 NC, 117 NC, 130 NC, 131 NC, 148 NC, 174 NC, 268 NC, 294 NC, 307 NC, 308 NC, 327 NC, 328 NC
part A text: Bank 0; Bank 3; Bank 1; Bank 2
part B text: Bank 4; Bank 7; Bank 5; Bank 6

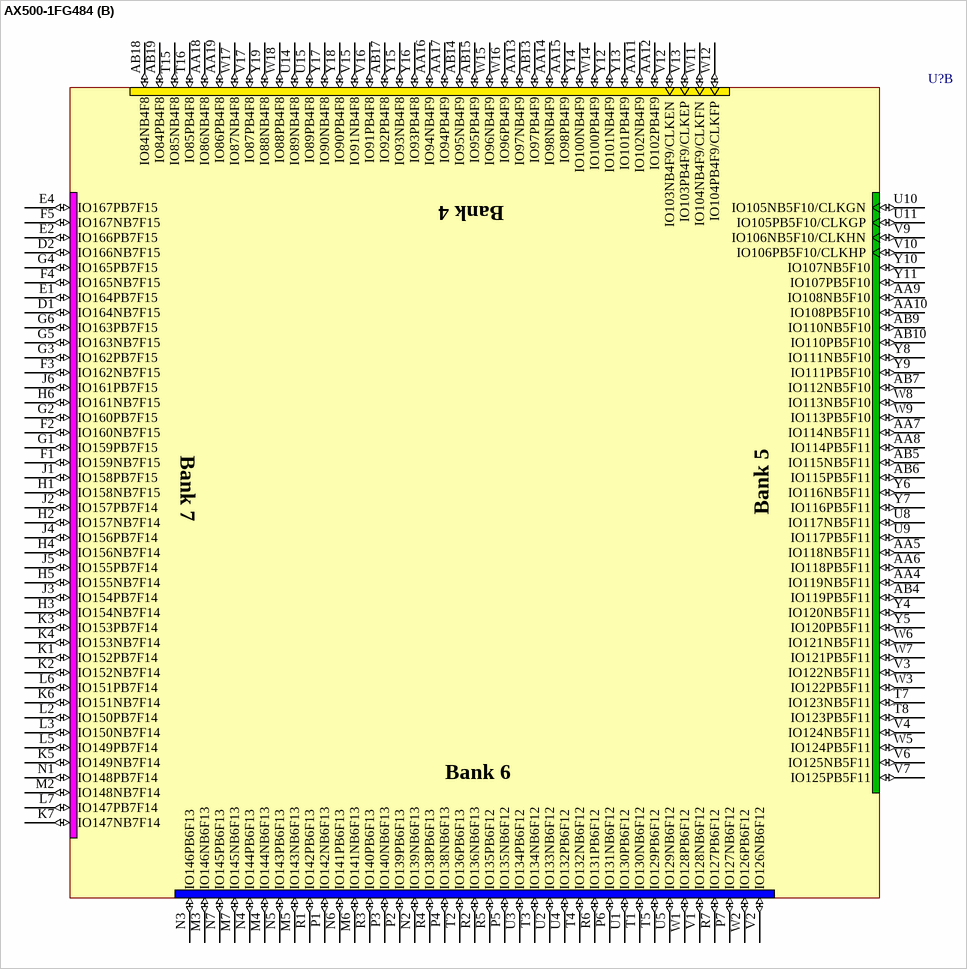
[diagram p104: symbol AX500-1FG484]

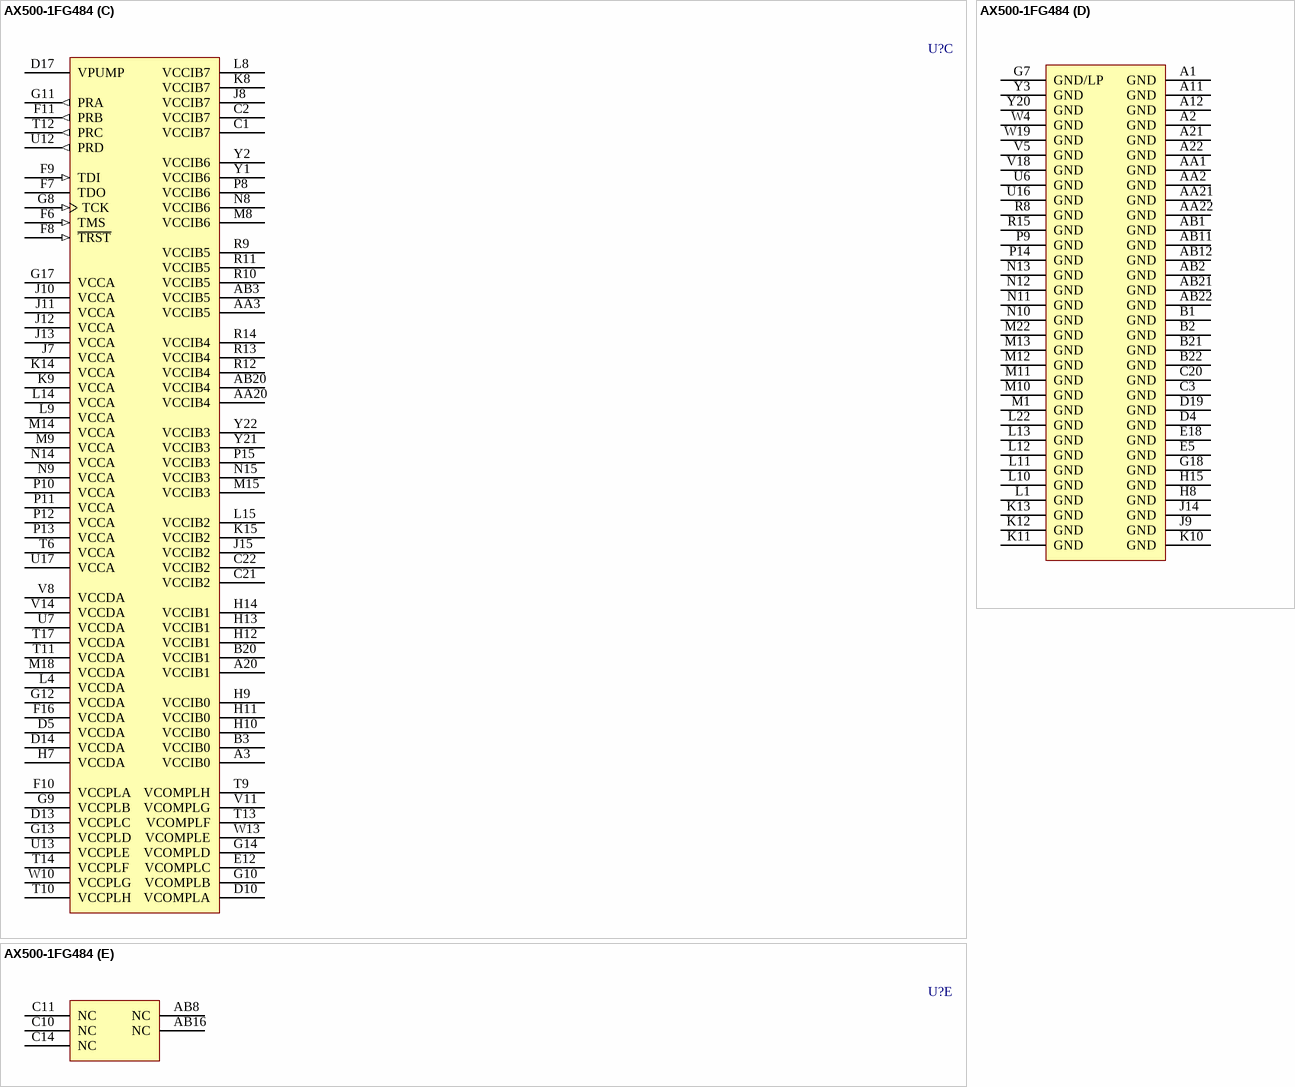
[diagram p105: symbol AX500-1FG484]

## AX500-1FG484
designator U?
Axcelerator AX500 FPGA, 317 I/Os, 484-Pin FBGA, Speed Grade 1, Commercial Grade; Published: 21-May-2003; LatestRevisionDate: 11-Dec-2009; LatestRevisionNote: Updated to datasheet version 2.8 Oct-2009.; DatasheetVersion: v2.8, Oct-2009; PackageVersion: ver11.2, Nov-2009; PackageReference: FG484; Publisher: Altium Limited; PackageDescription: 484-Ball Fine Pitch Plastic Ball Grid Array (FG484) - Fully Populated; Code_JEDEC: MS-034-AAJ-1; Code_IPC: BGA100P22X22-484; ComponentLink1Description: Axcelerator Datasheet; ComponentLink1URL: http://www.actel.com/documents/AX_DS.pdf; ComponentLink2Description: Package Mechanical Drawings; ComponentLink2URL: http://www.actel.com/documents/PckgMechDrwngs.pdf; ComponentLink3Description: Axcelerator Documents; ComponentLink3URL: http://www.actel.com/products/axcelerator/docs.aspx; ComponentLink4Description: Actel.com Home; ComponentLink4URL: http://www.actel.com/
footprint FG484 (BGA, 484-Leads, Body 23x23mm, Pitch 1mm)
part A pins: A4 IO06PB0F0 (io), A5 IO06NB0F0 (io), A6 IO07PB0F0 (io), A7 IO07NB0F0 (io), A8 IO14PB0F1 (io), A9 IO14NB0F1 (io), A10 IO15PB0F1 (io), A13 IO24PB1F2 (io), A14 IO24NB1F2 (io), A15 IO27PB1F2 (io), A16 IO27NB1F2 (io), A17 IO30PB1F2 (io), A18 IO30NB1F2 (io), A19 IO35PB1F3 (io), B4 IO04PB0F0 (io), B5 IO04NB0F0 (io), B6 IO08PB0F0 (io), B7 IO08NB0F0 (io), B8 IO10PB0F0 (io), B9 IO10NB0F0 (io), B10 IO15NB0F1 (io), B11 IO16PB0F1 (io), B12 IO16NB0F1 (io), B13 IO25PB1F2 (io), B14 IO25NB1F2 (io), B15 IO28PB1F2 (io), B16 IO28NB1F2 (io), B17 IO34PB1F3 (io), B18 IO34NB1F3 (io), B19 IO35NB1F3 (io), C4 IO02PB0F0 (io), C5 IO02NB0F0 (io), C6 IO05PB0F0 (io), C7 IO05NB0F0 (io), C8 IO13PB0F1 (io), C9 IO13NB0F1 (io), C12 IO18PB0F1 (io), C13 IO18NB0F1 (io), C15 IO26NB1F2 (io), C16 IO32PB1F3 (io), C17 IO32NB1F3 (io), C18 IO36PB1F3 (io), C19 IO36NB1F3 (io), D3 IO00PB0F0 (io), D6 IO03PB0F0 (io), D7 IO03NB0F0 (io), D8 IO12PB0F1 (io), D9 IO12NB0F1 (io), D11 IO20PB0F1/HCLKBP (io), D12 IO20NB0F1/HCLKBN (io), D15 IO29PB1F2 (io), D16 IO29NB1F2 (io), D18 IO38NB1F3 (io), D20 IO40PB1F3 (io), D21 IO39PB1F3 (io), D22 IO44PB2F4 (io), E3 IO00NB0F0 (io), E6 IO01PB0F0 (io), E7 IO01NB0F0 (io), E8 IO11PB0F0 (io), E9 IO11NB0F0 (io), E10 IO19PB0F1/HCLKAP (io), E11 IO19NB0F1/HCLKAN (io), E13 IO22PB1F2/HCLKDP (io), E14 IO22NB1F2/HCLKDN (io), E15 IO33PB1F3 (io), E16 IO33NB1F3 (io), E17 IO38PB1F3 (io), E19 IO42PB2F4 (io), E20 IO40NB1F3 (io), E21 IO39NB1F3 (io), E22 IO44NB2F4 (io), F12 IO21PB1F2/HCLKCP (io), F13 IO21NB1F2/HCLKCN (io), F14 IO31PB1F2 (io), F15 IO31NB1F2 (io), F17 IO37PB1F3 (io), F18 IO37NB1F3 (io), F19 IO42NB2F4 (io), F20 IO48PB2F4 (io), F21 IO50PB2F4 (io), F22 IO46PB2F4 (io), G15 IO41PB1F3 (io), G16 IO41NB1F3 (io), G19 IO45PB2F4 (io), G20 IO48NB2F4 (io), G21 IO50NB2F4 (io), G22 IO46NB2F4 (io), H16 IO43PB2F4 (io), H17 IO47PB2F4 (io), H18 IO49PB2F4 (io), H19 IO45NB2F4 (io), H20 IO53PB2F5 (io), H21 IO52PB2F5 (io), H22 IO54PB2F5 (io), J16 IO43NB2F4 (io), J17 IO47NB2F4 (io), J18 IO49NB2F4 (io), J19 IO51PB2F4 (io), J20 IO53NB2F5 (io), J21 IO52NB2F5 (io), J22 IO54NB2F5 (io), K16 IO61PB2F5 (io), K17 IO55PB2F5 (io), K18 IO59PB2F5 (io), K19 IO51NB2F4 (io), K20 IO58PB2F5 (io), K21 IO56NB2F5 (io), K22 IO56PB2F5 (io), L16 IO61NB2F5 (io), L17 IO55NB2F5 (io), L18 IO59NB2F5 (io), L19 IO62PB2F5 (io), L20 IO58NB2F5 (io), L21 IO60PB2F5 (io), M16 IO63PB3F6 (io), M17 IO69PB3F6 (io), M19 IO62NB2F5 (io), M20 IO65PB3F6 (io), M21 IO60NB2F5 (io), N16 IO63NB3F6 (io), N17 IO69NB3F6 (io), N18 IO67NB3F6 (io), N19 IO67PB3F6 (io), N20 IO65NB3F6 (io), N21 IO66PB3F6 (io), N22 IO64PB3F6 (io), P16 IO83PB3F7 (io), P17 IO77PB3F7 (io), P18 IO71NB3F6 (io), P19 IO71PB3F6 (io), P20 IO72PB3F6 (io), P21 IO66NB3F6 (io), P22 IO64NB3F6 (io), R16 IO83NB3F7 (io), R17 IO77NB3F7 (io), R18 IO79PB3F7 (io), R19 IO73PB3F6 (io), R20 IO72NB3F6 (io), R21 IO70PB3F6 (io), R22 IO68PB3F6 (io), T18 IO79NB3F7 (io), T19 IO81PB3F7 (io), T20 IO76PB3F7 (io), T21 IO70NB3F6 (io), T22 IO68NB3F6 (io), U18 IO82NB3F7 (io), U19 IO81NB3F7 (io), U20 IO76NB3F7 (io), U21 IO74PB3F7 (io), U22 IO75PB3F7 (io), V19 IO82PB3F7 (io), V20 IO80PB3F7 (io), V21 IO74NB3F7 (io), V22 IO75NB3F7 (io), W20 IO80NB3F7 (io), W21 IO78NB3F7 (io), W22 IO78PB3F7 (io)
part B pins: AA4 IO119NB5F11 (io), AA5 IO118NB5F11 (io), AA6 IO118PB5F11 (io), AA7 IO114NB5F11 (io), AA8 IO114PB5F11 (io), AA9 IO108NB5F10 (io), AA10 IO108PB5F10 (io), AA11 IO102NB4F9 (io), AA12 IO102PB4F9 (io), AA13 IO97NB4F9 (io), AA14 IO98NB4F9 (io), AA15 IO98PB4F9 (io), AA16 IO94NB4F9 (io), AA17 IO94PB4F9 (io), AA18 IO86NB4F8 (io), AA19 IO86PB4F8 (io), AB4 IO119PB5F11 (io), AB5 IO115NB5F11 (io), AB6 IO115PB5F11 (io), AB7 IO112NB5F10 (io), AB9 IO110NB5F10 (io), AB10 IO110PB5F10 (io), AB13 IO97PB4F9 (io), AB14 IO95NB4F9 (io), AB15 IO95PB4F9 (io), AB17 IO92PB4F8 (io), AB18 IO84NB4F8 (io), AB19 IO84PB4F8 (io), D1 IO164NB7F15 (io), D2 IO166NB7F15 (io), E1 IO164PB7F15 (io), E2 IO166PB7F15 (io), E4 IO167PB7F15 (io), F1 IO159NB7F15 (io), F2 IO160NB7F15 (io), F3 IO162NB7F15 (io), F4 IO165NB7F15 (io), F5 IO167NB7F15 (io), G1 IO159PB7F15 (io), G2 IO160PB7F15 (io), G3 IO162PB7F15 (io), G4 IO165PB7F15 (io), G5 IO163NB7F15 (io), G6 IO163PB7F15 (io), H1 IO158NB7F15 (io), H2 IO157NB7F14 (io), H3 IO154NB7F14 (io), H4 IO156NB7F14 (io), H5 IO155NB7F14 (io), H6 IO161NB7F15 (io), J1 IO158PB7F15 (io), J2 IO157PB7F14 (io), J3 IO154PB7F14 (io), J4 IO156PB7F14 (io), J5 IO155PB7F14 (io), J6 IO161PB7F15 (io), K1 IO152PB7F14 (io), K2 IO152NB7F14 (io), K3 IO153PB7F14 (io), K4 IO153NB7F14 (io), K5 IO149NB7F14 (io), K6 IO151NB7F14 (io), K7 IO147NB7F14 (io), L2 IO150PB7F14 (io), L3 IO150NB7F14 (io), L5 IO149PB7F14 (io), L6 IO151PB7F14 (io), L7 IO147PB7F14 (io), M2 IO148NB7F14 (io), M3 IO146NB6F13 (io), M4 IO144NB6F13 (io), M5 IO143NB6F13 (io), M6 IO141NB6F13 (io), M7 IO145NB6F13 (io), N1 IO148PB7F14 (io), N2 IO139NB6F13 (io), N3 IO146PB6F13 (io), N4 IO144PB6F13 (io), N5 IO143PB6F13 (io), N6 IO141PB6F13 (io), N7 IO145PB6F13 (io), P1 IO142NB6F13 (io), P2 IO139PB6F13 (io), P3 IO140NB6F13 (io), P4 IO138NB6F13 (io), P5 IO135NB6F12 (io), P6 IO131NB6F12 (io), P7 IO127NB6F12 (io), R1 IO142PB6F13 (io), R2 IO136NB6F13 (io), R3 IO140PB6F13 (io), R4 IO138PB6F13 (io), R5 IO135PB6F12 (io), R6 IO131PB6F12 (io), R7 IO127PB6F12 (io), T1 IO130NB6F12 (io), T2 IO136PB6F13 (io), T3 IO134NB6F12 (io), T4 IO132NB6F12 (io), T5 IO129PB6F12 (io), T7 IO123NB5F11 (io), T8 IO123PB5F11 (io), T15 IO85NB4F8 (io), T16 IO85PB4F8 (io), U1 IO130PB6F12 (io), U2 IO133NB6F12 (io), U3 IO134PB6F12 (io), U4 IO132PB6F12 (io), U5 IO129NB6F12 (io), U8 IO117NB5F11 (io), U9 IO117PB5F11 (io), U10 IO105NB5F10/CLKGN (io), U11 IO105PB5F10/CLKGP (io), U14 IO89NB4F8 (io), U15 IO89PB4F8 (io), V1 IO128NB6F12 (io), V2 IO126NB6F12 (io), V3 IO122NB5F11 (io), V4 IO124NB5F11 (io), V6 IO125NB5F11 (io), V7 IO125PB5F11 (io), V9 IO106NB5F10/CLKHN (io), V10 IO106PB5F10/CLKHP (io), V12 IO103NB4F9/CLKEN (io), V13 IO103PB4F9/CLKEP (io), V15 IO91NB4F8 (io), V16 IO91PB4F8 (io), V17 IO87PB4F8 (io), W1 IO128PB6F12 (io), W2 IO126PB6F12 (io), W3 IO122PB5F11 (io), W5 IO124PB5F11 (io), W6 IO121NB5F11 (io), W7 IO121PB5F11 (io), W8 IO113NB5F10 (io), W9 IO113PB5F10 (io), W11 IO104NB4F9/CLKFN (io), W12 IO104PB4F9/CLKFP (io), W14 IO100PB4F9 (io), W15 IO96NB4F9 (io), W16 IO96PB4F9 (io), W17 IO87NB4F8 (io), W18 IO88PB4F8 (io), Y4 IO120NB5F11 (io), Y5 IO120PB5F11 (io), Y6 IO116NB5F11 (io), Y7 IO116PB5F11 (io), Y8 IO111NB5F10 (io), Y9 IO111PB5F10 (io), Y10 IO107NB5F10 (io), Y11 IO107PB5F10 (io), Y12 IO101NB4F9 (io), Y13 IO101PB4F9 (io), Y14 IO100NB4F9 (io), Y15 IO93NB4F8 (io), Y16 IO93PB4F8 (io), Y17 IO90NB4F8 (io), Y18 IO90PB4F8 (io), Y19 IO88NB4F8 (io)
part C pins: A3 VCCIB0 (power), A20 VCCIB1 (power), AA3 VCCIB5 (power), AA20 VCCIB4 (power), AB3 VCCIB5 (power), AB20 VCCIB4 (power), B3 VCCIB0 (power), B20 VCCIB1 (power), C1 VCCIB7 (power), C2 VCCIB7 (power), C21 VCCIB2 (power), C22 VCCIB2 (power), D5 VCCDA (power), D10 VCOMPLA (power), D13 VCCPLC (power), D14 VCCDA (power), D17 VPUMP (power), E12 VCOMPLC (power), F6 TMS (in), F7 TDO (hiz), F8 ~{TRST} (in), F9 TDI (in), F10 VCCPLA (power), F11 PRB (out), F16 VCCDA (power), G8 TCK (in), G9 VCCPLB (power), G10 VCOMPLB (power), G11 PRA (out), G12 VCCDA (power), G13 VCCPLD (power), G14 VCOMPLD (power), G17 VCCA (power), H7 VCCDA (power), H9 VCCIB0 (power), H10 VCCIB0 (power), H11 VCCIB0 (power), H12 VCCIB1 (power), H13 VCCIB1 (power), H14 VCCIB1 (power), J7 VCCA (power), J8 VCCIB7 (power), J10 VCCA (power), J11 VCCA (power), J12 VCCA (power), J13 VCCA (power), J15 VCCIB2 (power), K8 VCCIB7 (power), K9 VCCA (power), K14 VCCA (power), K15 VCCIB2 (power), L4 VCCDA (power), L8 VCCIB7 (power), L9 VCCA (power), L14 VCCA (power), L15 VCCIB2 (power), M8 VCCIB6 (power), M9 VCCA (power), M14 VCCA (power), M15 VCCIB3 (power), M18 VCCDA (power), N8 VCCIB6 (power), N9 VCCA (power), N14 VCCA (power), N15 VCCIB3 (power), P8 VCCIB6 (power), P10 VCCA (power), P11 VCCA (power), P12 VCCA (power), P13 VCCA (power), P15 VCCIB3 (power), R9 VCCIB5 (power), R10 VCCIB5 (power), R11 VCCIB5 (power), R12 VCCIB4 (power), R13 VCCIB4 (power), R14 VCCIB4 (power), T6 VCCA (power), T9 VCOMPLH (power), T10 VCCPLH (power), T11 VCCDA (power), T12 PRC (out), T13 VCOMPLF (power), T14 VCCPLF (power), T17 VCCDA (power), U7 VCCDA (power), U12 PRD (out), U13 VCCPLE (power), U17 VCCA (power), V8 VCCDA (power), V11 VCOMPLG (power), V14 VCCDA (power), W10 VCCPLG (power), W13 VCOMPLE (power), Y1 VCCIB6 (power), Y2 VCCIB6 (power), Y21 VCCIB3 (power), Y22 VCCIB3 (power)
part D pins: A1 GND (power), A2 GND (power), A11 GND (power), A12 GND (power), A21 GND (power), A22 GND (power), AA1 GND (power), AA2 GND (power), AA21 GND (power), AA22 GND (power), AB1 GND (power), AB2 GND (power), AB11 GND (power), AB12 GND (power), AB21 GND (power), AB22 GND (power), B1 GND (power), B2 GND (power), B21 GND (power), B22 GND (power), C3 GND (power), C20 GND (power), D4 GND (power), D19 GND (power), E5 GND (power), E18 GND (power), G7 GND/LP (power), G18 GND (power), H8 GND (power), H15 GND (power), J9 GND (power), J14 GND (power), K10 GND (power), K11 GND (power), K12 GND (power), K13 GND (power), L1 GND (power), L10 GND (power), L11 GND (power), L12 GND (power), L13 GND (power), L22 GND (power), M1 GND (power), M10 GND (power), M11 GND (power), M12 GND (power), M13 GND (power), M22 GND (power), N10 GND (power), N11 GND (power), N12 GND (power), N13 GND (power), P9 GND (power), P14 GND (power), R8 GND (power), R15 GND (power), U6 GND (power), U16 GND (power), V5 GND (power), V18 GND (power), W4 GND (power), W19 GND (power), Y3 GND (power), Y20 GND (power)
part E pins: AB8 NC, AB16 NC, C10 NC, C11 NC, C14 NC
part A text: Bank 0; Bank 3; Bank 1; Bank 2
part B text: Bank 4; Bank 7; Bank 5; Bank 6

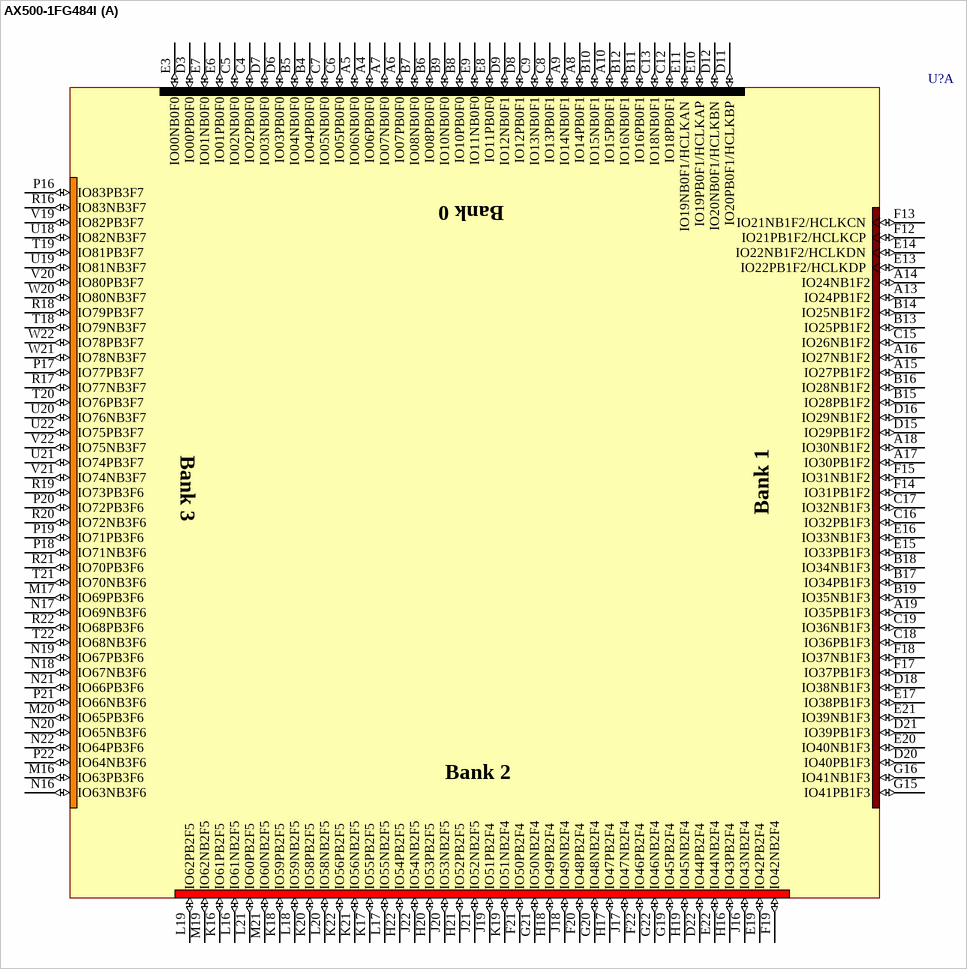
[diagram p106: symbol AX500-1FG484I]

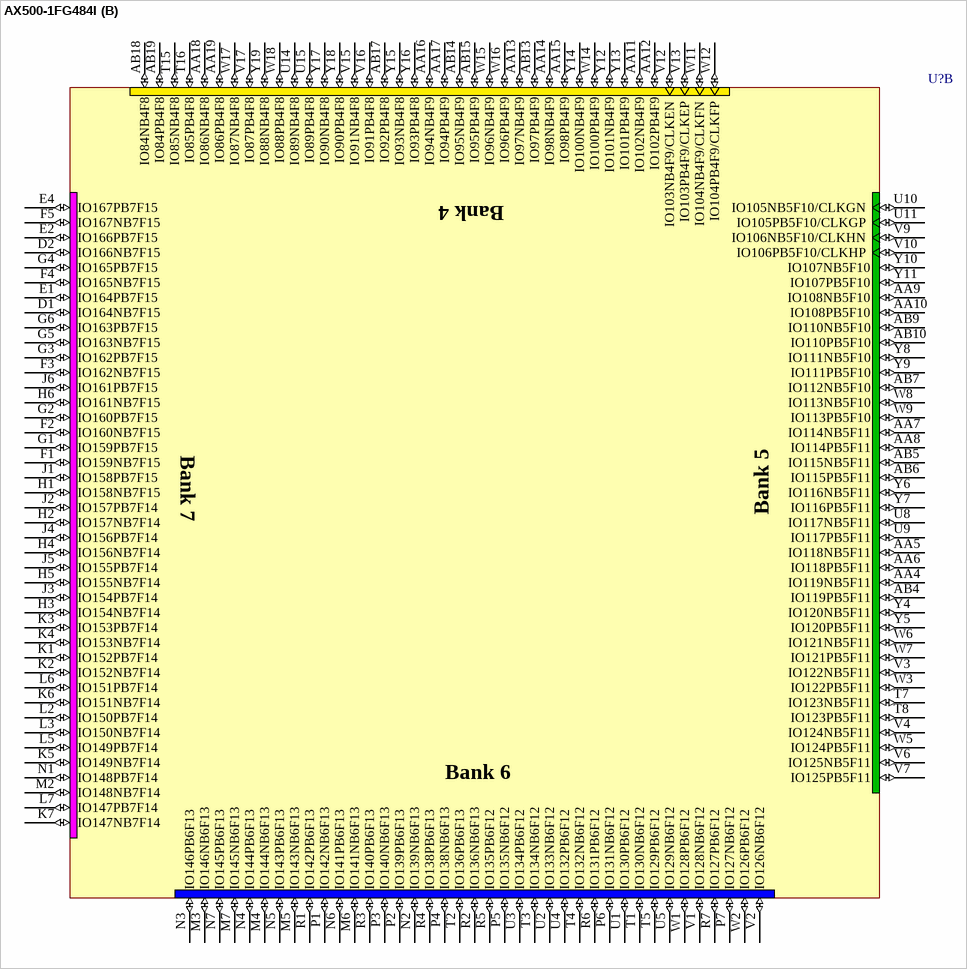
[diagram p107: symbol AX500-1FG484I]

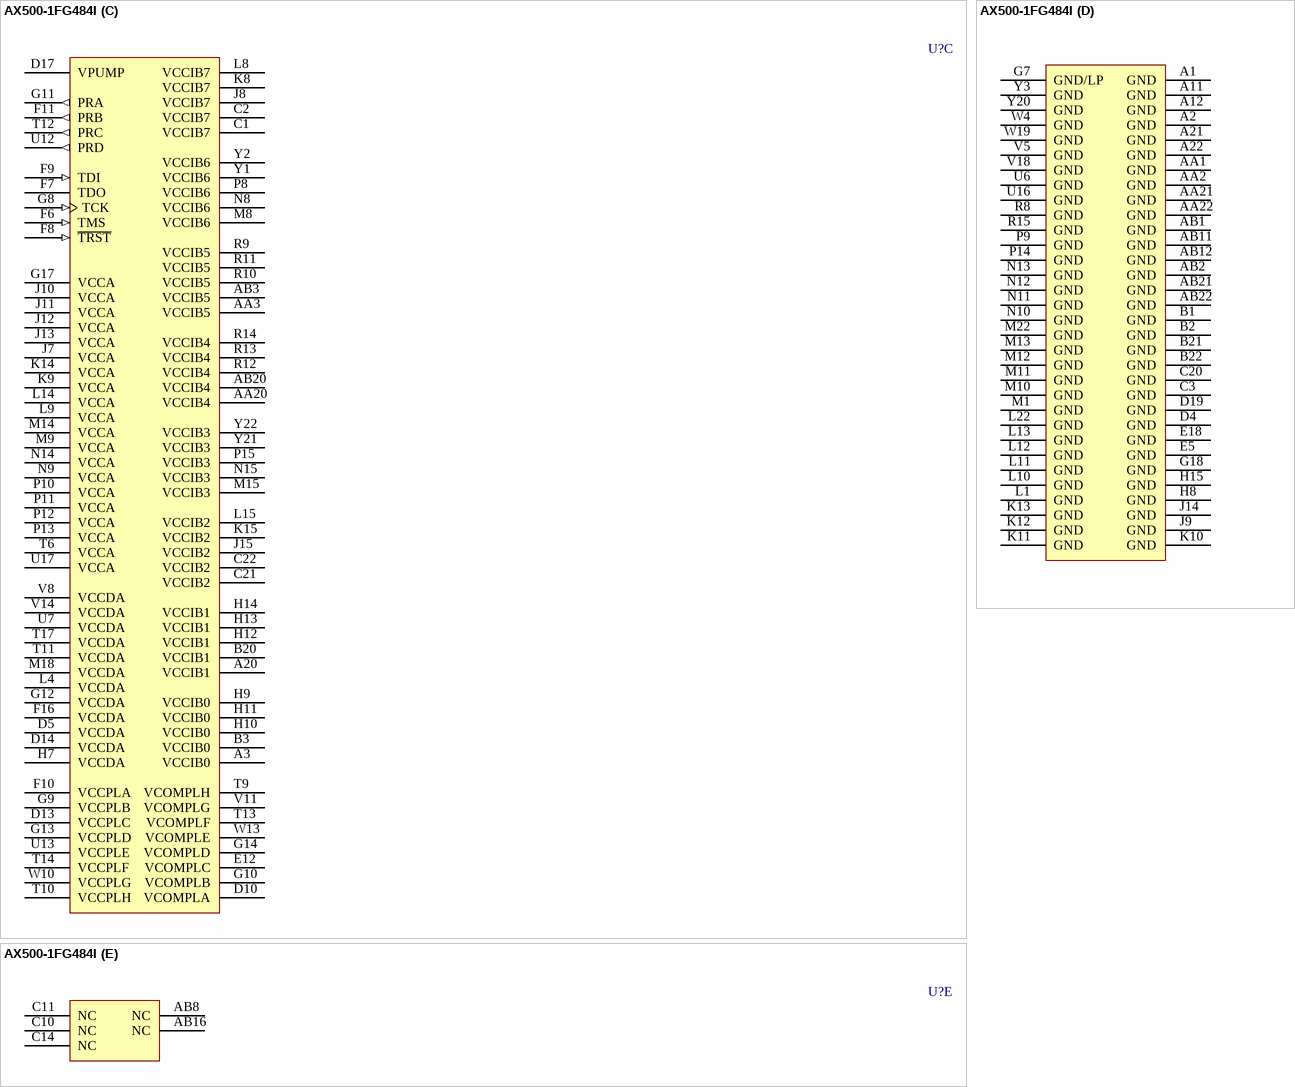
[diagram p108: symbol AX500-1FG484I]

## AX500-1FG484I
designator U?
Axcelerator AX500 FPGA, 317 I/Os, 484-Pin FBGA, Speed Grade 1, Industrial Grade; Published: 21-May-2003; LatestRevisionDate: 11-Dec-2009; LatestRevisionNote: Updated to datasheet version 2.8 Oct-2009.; DatasheetVersion: v2.8, Oct-2009; PackageVersion: ver11.2, Nov-2009; PackageReference: FG484; Publisher: Altium Limited; PackageDescription: 484-Ball Fine Pitch Plastic Ball Grid Array (FG484) - Fully Populated; Code_JEDEC: MS-034-AAJ-1; Code_IPC: BGA100P22X22-484; ComponentLink1Description: Axcelerator Datasheet; ComponentLink1URL: http://www.actel.com/documents/AX_DS.pdf; ComponentLink2Description: Package Mechanical Drawings; ComponentLink2URL: http://www.actel.com/documents/PckgMechDrwngs.pdf; ComponentLink3Description: Axcelerator Documents; ComponentLink3URL: http://www.actel.com/products/axcelerator/docs.aspx; ComponentLink4Description: Actel.com Home; ComponentLink4URL: http://www.actel.com/
footprint FG484 (BGA, 484-Leads, Body 23x23mm, Pitch 1mm)
part A pins: A4 IO06PB0F0 (io), A5 IO06NB0F0 (io), A6 IO07PB0F0 (io), A7 IO07NB0F0 (io), A8 IO14PB0F1 (io), A9 IO14NB0F1 (io), A10 IO15PB0F1 (io), A13 IO24PB1F2 (io), A14 IO24NB1F2 (io), A15 IO27PB1F2 (io), A16 IO27NB1F2 (io), A17 IO30PB1F2 (io), A18 IO30NB1F2 (io), A19 IO35PB1F3 (io), B4 IO04PB0F0 (io), B5 IO04NB0F0 (io), B6 IO08PB0F0 (io), B7 IO08NB0F0 (io), B8 IO10PB0F0 (io), B9 IO10NB0F0 (io), B10 IO15NB0F1 (io), B11 IO16PB0F1 (io), B12 IO16NB0F1 (io), B13 IO25PB1F2 (io), B14 IO25NB1F2 (io), B15 IO28PB1F2 (io), B16 IO28NB1F2 (io), B17 IO34PB1F3 (io), B18 IO34NB1F3 (io), B19 IO35NB1F3 (io), C4 IO02PB0F0 (io), C5 IO02NB0F0 (io), C6 IO05PB0F0 (io), C7 IO05NB0F0 (io), C8 IO13PB0F1 (io), C9 IO13NB0F1 (io), C12 IO18PB0F1 (io), C13 IO18NB0F1 (io), C15 IO26NB1F2 (io), C16 IO32PB1F3 (io), C17 IO32NB1F3 (io), C18 IO36PB1F3 (io), C19 IO36NB1F3 (io), D3 IO00PB0F0 (io), D6 IO03PB0F0 (io), D7 IO03NB0F0 (io), D8 IO12PB0F1 (io), D9 IO12NB0F1 (io), D11 IO20PB0F1/HCLKBP (io), D12 IO20NB0F1/HCLKBN (io), D15 IO29PB1F2 (io), D16 IO29NB1F2 (io), D18 IO38NB1F3 (io), D20 IO40PB1F3 (io), D21 IO39PB1F3 (io), D22 IO44PB2F4 (io), E3 IO00NB0F0 (io), E6 IO01PB0F0 (io), E7 IO01NB0F0 (io), E8 IO11PB0F0 (io), E9 IO11NB0F0 (io), E10 IO19PB0F1/HCLKAP (io), E11 IO19NB0F1/HCLKAN (io), E13 IO22PB1F2/HCLKDP (io), E14 IO22NB1F2/HCLKDN (io), E15 IO33PB1F3 (io), E16 IO33NB1F3 (io), E17 IO38PB1F3 (io), E19 IO42PB2F4 (io), E20 IO40NB1F3 (io), E21 IO39NB1F3 (io), E22 IO44NB2F4 (io), F12 IO21PB1F2/HCLKCP (io), F13 IO21NB1F2/HCLKCN (io), F14 IO31PB1F2 (io), F15 IO31NB1F2 (io), F17 IO37PB1F3 (io), F18 IO37NB1F3 (io), F19 IO42NB2F4 (io), F20 IO48PB2F4 (io), F21 IO50PB2F4 (io), F22 IO46PB2F4 (io), G15 IO41PB1F3 (io), G16 IO41NB1F3 (io), G19 IO45PB2F4 (io), G20 IO48NB2F4 (io), G21 IO50NB2F4 (io), G22 IO46NB2F4 (io), H16 IO43PB2F4 (io), H17 IO47PB2F4 (io), H18 IO49PB2F4 (io), H19 IO45NB2F4 (io), H20 IO53PB2F5 (io), H21 IO52PB2F5 (io), H22 IO54PB2F5 (io), J16 IO43NB2F4 (io), J17 IO47NB2F4 (io), J18 IO49NB2F4 (io), J19 IO51PB2F4 (io), J20 IO53NB2F5 (io), J21 IO52NB2F5 (io), J22 IO54NB2F5 (io), K16 IO61PB2F5 (io), K17 IO55PB2F5 (io), K18 IO59PB2F5 (io), K19 IO51NB2F4 (io), K20 IO58PB2F5 (io), K21 IO56NB2F5 (io), K22 IO56PB2F5 (io), L16 IO61NB2F5 (io), L17 IO55NB2F5 (io), L18 IO59NB2F5 (io), L19 IO62PB2F5 (io), L20 IO58NB2F5 (io), L21 IO60PB2F5 (io), M16 IO63PB3F6 (io), M17 IO69PB3F6 (io), M19 IO62NB2F5 (io), M20 IO65PB3F6 (io), M21 IO60NB2F5 (io), N16 IO63NB3F6 (io), N17 IO69NB3F6 (io), N18 IO67NB3F6 (io), N19 IO67PB3F6 (io), N20 IO65NB3F6 (io), N21 IO66PB3F6 (io), N22 IO64PB3F6 (io), P16 IO83PB3F7 (io), P17 IO77PB3F7 (io), P18 IO71NB3F6 (io), P19 IO71PB3F6 (io), P20 IO72PB3F6 (io), P21 IO66NB3F6 (io), P22 IO64NB3F6 (io), R16 IO83NB3F7 (io), R17 IO77NB3F7 (io), R18 IO79PB3F7 (io), R19 IO73PB3F6 (io), R20 IO72NB3F6 (io), R21 IO70PB3F6 (io), R22 IO68PB3F6 (io), T18 IO79NB3F7 (io), T19 IO81PB3F7 (io), T20 IO76PB3F7 (io), T21 IO70NB3F6 (io), T22 IO68NB3F6 (io), U18 IO82NB3F7 (io), U19 IO81NB3F7 (io), U20 IO76NB3F7 (io), U21 IO74PB3F7 (io), U22 IO75PB3F7 (io), V19 IO82PB3F7 (io), V20 IO80PB3F7 (io), V21 IO74NB3F7 (io), V22 IO75NB3F7 (io), W20 IO80NB3F7 (io), W21 IO78NB3F7 (io), W22 IO78PB3F7 (io)
part B pins: AA4 IO119NB5F11 (io), AA5 IO118NB5F11 (io), AA6 IO118PB5F11 (io), AA7 IO114NB5F11 (io), AA8 IO114PB5F11 (io), AA9 IO108NB5F10 (io), AA10 IO108PB5F10 (io), AA11 IO102NB4F9 (io), AA12 IO102PB4F9 (io), AA13 IO97NB4F9 (io), AA14 IO98NB4F9 (io), AA15 IO98PB4F9 (io), AA16 IO94NB4F9 (io), AA17 IO94PB4F9 (io), AA18 IO86NB4F8 (io), AA19 IO86PB4F8 (io), AB4 IO119PB5F11 (io), AB5 IO115NB5F11 (io), AB6 IO115PB5F11 (io), AB7 IO112NB5F10 (io), AB9 IO110NB5F10 (io), AB10 IO110PB5F10 (io), AB13 IO97PB4F9 (io), AB14 IO95NB4F9 (io), AB15 IO95PB4F9 (io), AB17 IO92PB4F8 (io), AB18 IO84NB4F8 (io), AB19 IO84PB4F8 (io), D1 IO164NB7F15 (io), D2 IO166NB7F15 (io), E1 IO164PB7F15 (io), E2 IO166PB7F15 (io), E4 IO167PB7F15 (io), F1 IO159NB7F15 (io), F2 IO160NB7F15 (io), F3 IO162NB7F15 (io), F4 IO165NB7F15 (io), F5 IO167NB7F15 (io), G1 IO159PB7F15 (io), G2 IO160PB7F15 (io), G3 IO162PB7F15 (io), G4 IO165PB7F15 (io), G5 IO163NB7F15 (io), G6 IO163PB7F15 (io), H1 IO158NB7F15 (io), H2 IO157NB7F14 (io), H3 IO154NB7F14 (io), H4 IO156NB7F14 (io), H5 IO155NB7F14 (io), H6 IO161NB7F15 (io), J1 IO158PB7F15 (io), J2 IO157PB7F14 (io), J3 IO154PB7F14 (io), J4 IO156PB7F14 (io), J5 IO155PB7F14 (io), J6 IO161PB7F15 (io), K1 IO152PB7F14 (io), K2 IO152NB7F14 (io), K3 IO153PB7F14 (io), K4 IO153NB7F14 (io), K5 IO149NB7F14 (io), K6 IO151NB7F14 (io), K7 IO147NB7F14 (io), L2 IO150PB7F14 (io), L3 IO150NB7F14 (io), L5 IO149PB7F14 (io), L6 IO151PB7F14 (io), L7 IO147PB7F14 (io), M2 IO148NB7F14 (io), M3 IO146NB6F13 (io), M4 IO144NB6F13 (io), M5 IO143NB6F13 (io), M6 IO141NB6F13 (io), M7 IO145NB6F13 (io), N1 IO148PB7F14 (io), N2 IO139NB6F13 (io), N3 IO146PB6F13 (io), N4 IO144PB6F13 (io), N5 IO143PB6F13 (io), N6 IO141PB6F13 (io), N7 IO145PB6F13 (io), P1 IO142NB6F13 (io), P2 IO139PB6F13 (io), P3 IO140NB6F13 (io), P4 IO138NB6F13 (io), P5 IO135NB6F12 (io), P6 IO131NB6F12 (io), P7 IO127NB6F12 (io), R1 IO142PB6F13 (io), R2 IO136NB6F13 (io), R3 IO140PB6F13 (io), R4 IO138PB6F13 (io), R5 IO135PB6F12 (io), R6 IO131PB6F12 (io), R7 IO127PB6F12 (io), T1 IO130NB6F12 (io), T2 IO136PB6F13 (io), T3 IO134NB6F12 (io), T4 IO132NB6F12 (io), T5 IO129PB6F12 (io), T7 IO123NB5F11 (io), T8 IO123PB5F11 (io), T15 IO85NB4F8 (io), T16 IO85PB4F8 (io), U1 IO130PB6F12 (io), U2 IO133NB6F12 (io), U3 IO134PB6F12 (io), U4 IO132PB6F12 (io), U5 IO129NB6F12 (io), U8 IO117NB5F11 (io), U9 IO117PB5F11 (io), U10 IO105NB5F10/CLKGN (io), U11 IO105PB5F10/CLKGP (io), U14 IO89NB4F8 (io), U15 IO89PB4F8 (io), V1 IO128NB6F12 (io), V2 IO126NB6F12 (io), V3 IO122NB5F11 (io), V4 IO124NB5F11 (io), V6 IO125NB5F11 (io), V7 IO125PB5F11 (io), V9 IO106NB5F10/CLKHN (io), V10 IO106PB5F10/CLKHP (io), V12 IO103NB4F9/CLKEN (io), V13 IO103PB4F9/CLKEP (io), V15 IO91NB4F8 (io), V16 IO91PB4F8 (io), V17 IO87PB4F8 (io), W1 IO128PB6F12 (io), W2 IO126PB6F12 (io), W3 IO122PB5F11 (io), W5 IO124PB5F11 (io), W6 IO121NB5F11 (io), W7 IO121PB5F11 (io), W8 IO113NB5F10 (io), W9 IO113PB5F10 (io), W11 IO104NB4F9/CLKFN (io), W12 IO104PB4F9/CLKFP (io), W14 IO100PB4F9 (io), W15 IO96NB4F9 (io), W16 IO96PB4F9 (io), W17 IO87NB4F8 (io), W18 IO88PB4F8 (io), Y4 IO120NB5F11 (io), Y5 IO120PB5F11 (io), Y6 IO116NB5F11 (io), Y7 IO116PB5F11 (io), Y8 IO111NB5F10 (io), Y9 IO111PB5F10 (io), Y10 IO107NB5F10 (io), Y11 IO107PB5F10 (io), Y12 IO101NB4F9 (io), Y13 IO101PB4F9 (io), Y14 IO100NB4F9 (io), Y15 IO93NB4F8 (io), Y16 IO93PB4F8 (io), Y17 IO90NB4F8 (io), Y18 IO90PB4F8 (io), Y19 IO88NB4F8 (io)
part C pins: A3 VCCIB0 (power), A20 VCCIB1 (power), AA3 VCCIB5 (power), AA20 VCCIB4 (power), AB3 VCCIB5 (power), AB20 VCCIB4 (power), B3 VCCIB0 (power), B20 VCCIB1 (power), C1 VCCIB7 (power), C2 VCCIB7 (power), C21 VCCIB2 (power), C22 VCCIB2 (power), D5 VCCDA (power), D10 VCOMPLA (power), D13 VCCPLC (power), D14 VCCDA (power), D17 VPUMP (power), E12 VCOMPLC (power), F6 TMS (in), F7 TDO (hiz), F8 ~{TRST} (in), F9 TDI (in), F10 VCCPLA (power), F11 PRB (out), F16 VCCDA (power), G8 TCK (in), G9 VCCPLB (power), G10 VCOMPLB (power), G11 PRA (out), G12 VCCDA (power), G13 VCCPLD (power), G14 VCOMPLD (power), G17 VCCA (power), H7 VCCDA (power), H9 VCCIB0 (power), H10 VCCIB0 (power), H11 VCCIB0 (power), H12 VCCIB1 (power), H13 VCCIB1 (power), H14 VCCIB1 (power), J7 VCCA (power), J8 VCCIB7 (power), J10 VCCA (power), J11 VCCA (power), J12 VCCA (power), J13 VCCA (power), J15 VCCIB2 (power), K8 VCCIB7 (power), K9 VCCA (power), K14 VCCA (power), K15 VCCIB2 (power), L4 VCCDA (power), L8 VCCIB7 (power), L9 VCCA (power), L14 VCCA (power), L15 VCCIB2 (power), M8 VCCIB6 (power), M9 VCCA (power), M14 VCCA (power), M15 VCCIB3 (power), M18 VCCDA (power), N8 VCCIB6 (power), N9 VCCA (power), N14 VCCA (power), N15 VCCIB3 (power), P8 VCCIB6 (power), P10 VCCA (power), P11 VCCA (power), P12 VCCA (power), P13 VCCA (power), P15 VCCIB3 (power), R9 VCCIB5 (power), R10 VCCIB5 (power), R11 VCCIB5 (power), R12 VCCIB4 (power), R13 VCCIB4 (power), R14 VCCIB4 (power), T6 VCCA (power), T9 VCOMPLH (power), T10 VCCPLH (power), T11 VCCDA (power), T12 PRC (out), T13 VCOMPLF (power), T14 VCCPLF (power), T17 VCCDA (power), U7 VCCDA (power), U12 PRD (out), U13 VCCPLE (power), U17 VCCA (power), V8 VCCDA (power), V11 VCOMPLG (power), V14 VCCDA (power), W10 VCCPLG (power), W13 VCOMPLE (power), Y1 VCCIB6 (power), Y2 VCCIB6 (power), Y21 VCCIB3 (power), Y22 VCCIB3 (power)
part D pins: A1 GND (power), A2 GND (power), A11 GND (power), A12 GND (power), A21 GND (power), A22 GND (power), AA1 GND (power), AA2 GND (power), AA21 GND (power), AA22 GND (power), AB1 GND (power), AB2 GND (power), AB11 GND (power), AB12 GND (power), AB21 GND (power), AB22 GND (power), B1 GND (power), B2 GND (power), B21 GND (power), B22 GND (power), C3 GND (power), C20 GND (power), D4 GND (power), D19 GND (power), E5 GND (power), E18 GND (power), G7 GND/LP (power), G18 GND (power), H8 GND (power), H15 GND (power), J9 GND (power), J14 GND (power), K10 GND (power), K11 GND (power), K12 GND (power), K13 GND (power), L1 GND (power), L10 GND (power), L11 GND (power), L12 GND (power), L13 GND (power), L22 GND (power), M1 GND (power), M10 GND (power), M11 GND (power), M12 GND (power), M13 GND (power), M22 GND (power), N10 GND (power), N11 GND (power), N12 GND (power), N13 GND (power), P9 GND (power), P14 GND (power), R8 GND (power), R15 GND (power), U6 GND (power), U16 GND (power), V5 GND (power), V18 GND (power), W4 GND (power), W19 GND (power), Y3 GND (power), Y20 GND (power)
part E pins: AB8 NC, AB16 NC, C10 NC, C11 NC, C14 NC
part A text: Bank 0; Bank 3; Bank 1; Bank 2
part B text: Bank 4; Bank 7; Bank 5; Bank 6

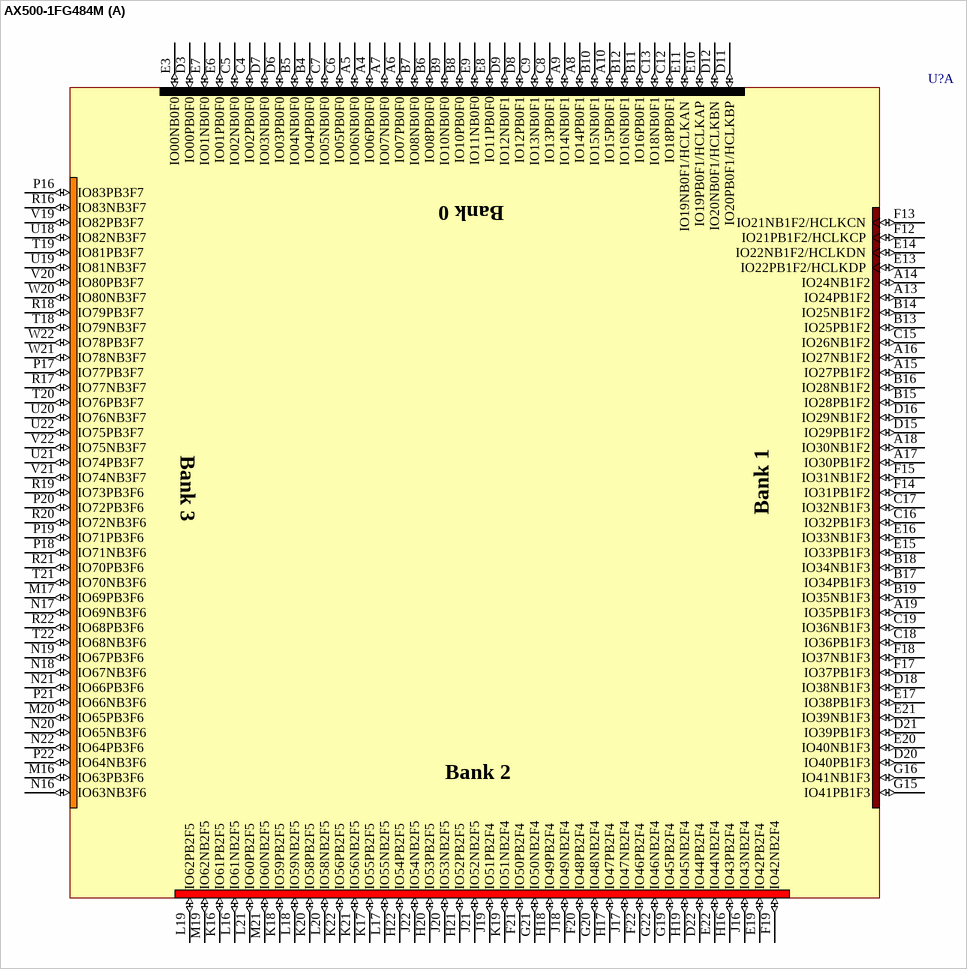
[diagram p109: symbol AX500-1FG484M]

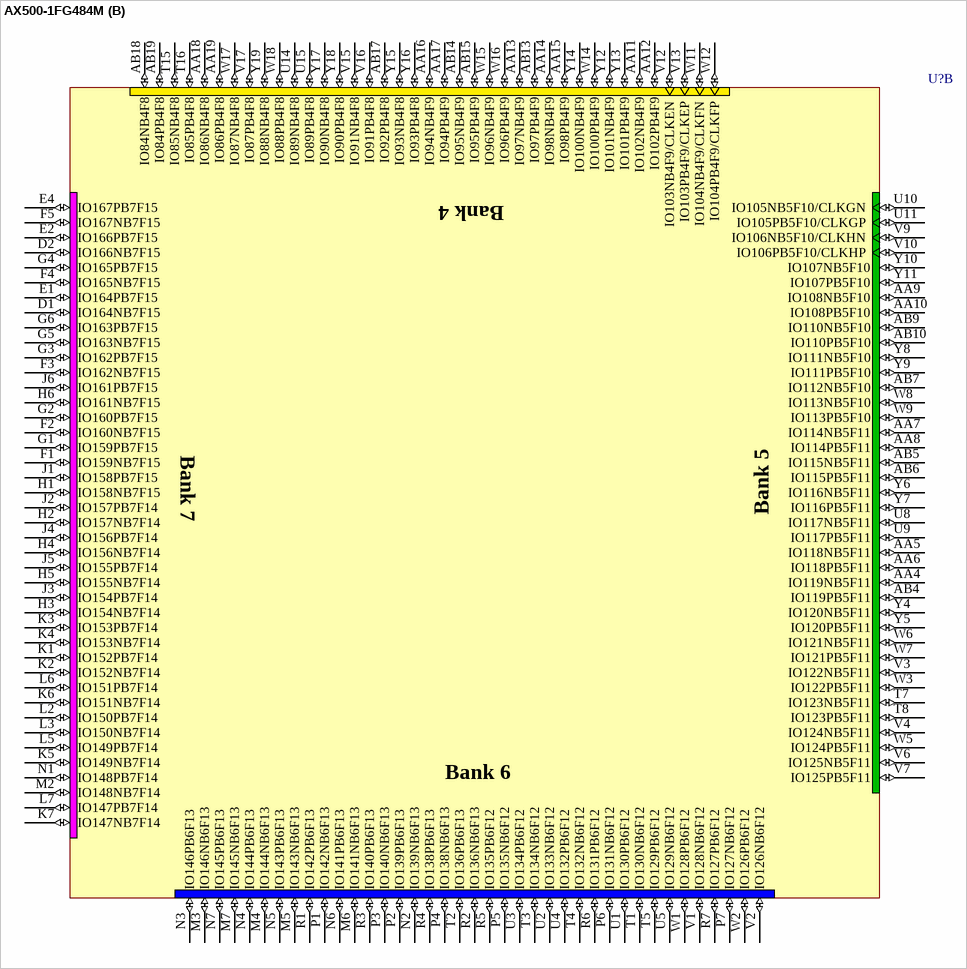
[diagram p110: symbol AX500-1FG484M]

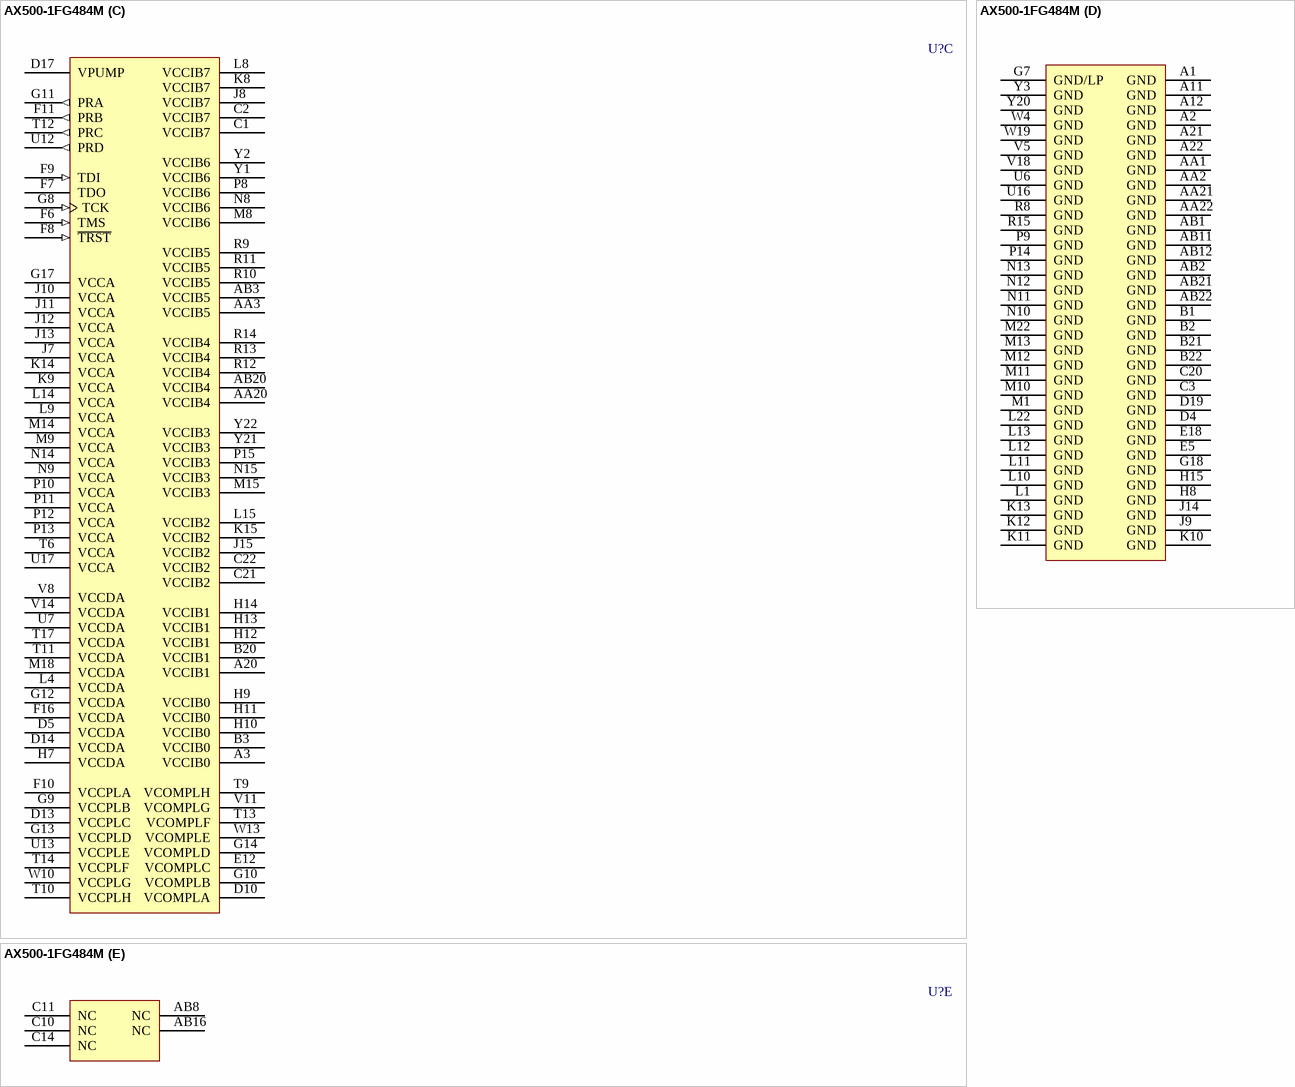
[diagram p111: symbol AX500-1FG484M]